# Altium integrated library Renesas Microcontroller M16C.IntLib: 423 symbols (part 26 of 30)
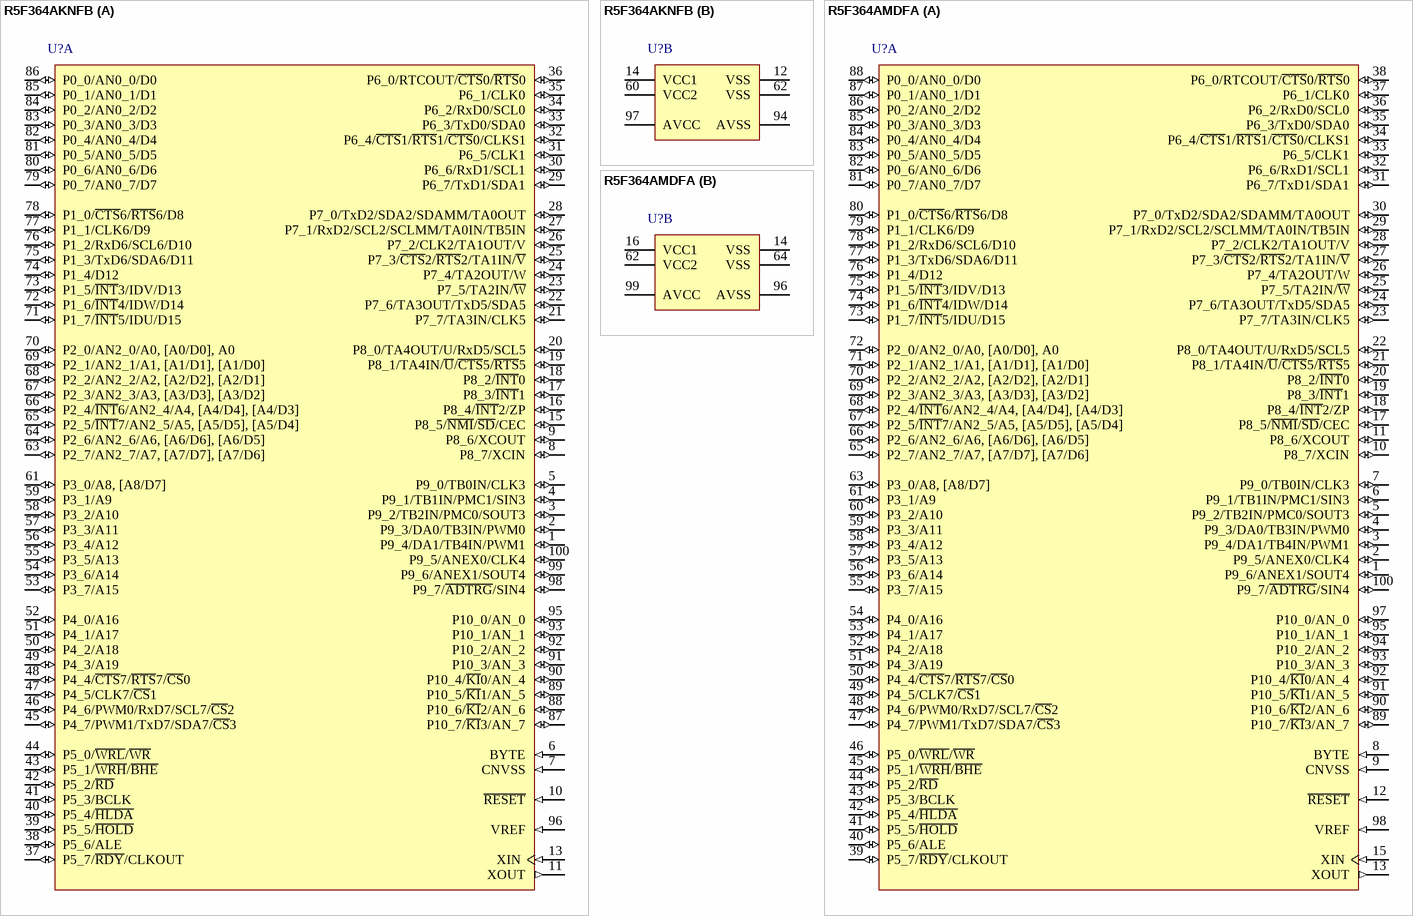
[diagram p211: symbols R5F364AKNFB to R5F364AMDFA]

## R5F364AKNFB
designator U?
Flash Memory M16C/60 Series, 64A Group MCU, 384K + 24K ROM, 31K RAM, 100-pin LQFP, -20 to 85°C; Published: 26-Feb-2010; DatasheetVersion: Rev.1.10, Jul-2009; PackageVersion: Sep-2005; PackageReference: PLQP0100KB-A; Publisher: Altium Limited; PackageDescription: 100-Pin Plastic Low Profile QFP, 14 x 14 x 1.4 mm Body, 0.5 mm Pitch; Code_JEITA: P-LQFP100-14x14-0.50; Code_IPC: SQFP50P1600X1600-100; ComponentLink1Description: Manufacturer Link; ComponentLink1URL: http://sg.renesas.com/fmwk.jsp?cnt=m16c_family_landing.jsp&fp=/products/mpumcu/m16c_family/; ComponentLink2Description: Datasheet; ComponentLink2URL: http://documentation.renesas.com/eng/products/mpumcu/rej03b0264_16c64ads.pdf; ComponentLink3Description: Packaging Specification; ComponentLink3URL: http://sg.renesas.com/media/products/common_info/package/pdf/ic/code/plqp0100kb_a.pdf
footprint PLQP0100KB-A_N (Shrink QFP, 100-Leads, Body 14x14mm, Pitch 0.5mm, IPC Medium Density)
footprint PLQP0100KB-A_L (Shrink QFP, 100-Leads, Body 14x14mm, Pitch 0.5mm, IPC High Density)
footprint PLQP0100KB-A_M (Shrink QFP, 100-Leads, Body 14x14mm, Pitch 0.5mm, IPC Low Density)
part A pins: 1 P9_4/DA1/TB4IN/PWM1 (io), 2 P9_3/DA0/TB3IN/PWM0 (io), 3 P9_2/TB2IN/PMC0/SOUT3 (io), 4 P9_1/TB1IN/PMC1/SIN3 (io), 5 P9_0/TB0IN/CLK3 (io), 6 BYTE (in), 7 CNVSS (in), 8 P8_7/XCIN (io), 9 P8_6/XCOUT (io), 10 ~{RESET} (in), 11 XOUT (out), 13 XIN (in), 15 P8_5/~{NMI}/~{SD}/CEC (io), 16 P8_4/~{INT}2/ZP (io), 17 P8_3/~{INT}1 (io), 18 P8_2/~{INT}0 (io), 19 P8_1/TA4IN/~{U}/~{CTS}5/~{RTS}5 (io), 20 P8_0/TA4OUT/U/RxD5/SCL5 (io), 21 P7_7/TA3IN/CLK5 (io), 22 P7_6/TA3OUT/TxD5/SDA5 (io), 23 P7_5/TA2IN/~{W} (io), 24 P7_4/TA2OUT/W (io), 25 P7_3/~{CTS}2/~{RTS}2/TA1IN/~{V} (io), 26 P7_2/CLK2/TA1OUT/V (io), 27 P7_1/RxD2/SCL2/SCLMM/TA0IN/TB5IN (io), 28 P7_0/TxD2/SDA2/SDAMM/TA0OUT (io), 29 P6_7/TxD1/SDA1 (io), 30 P6_6/RxD1/SCL1 (io), 31 P6_5/CLK1 (io), 32 P6_4/~{CTS}1/~{RTS}1/~{CTS}0/CLKS1 (io), 33 P6_3/TxD0/SDA0 (io), 34 P6_2/RxD0/SCL0 (io), 35 P6_1/CLK0 (io), 36 P6_0/RTCOUT/~{CTS}0/~{RTS}0 (io), 37 P5_7/~{RDY}/CLKOUT (io), 38 P5_6/ALE (io), 39 P5_5/~{HOLD} (io), 40 P5_4/~{HLDA} (io), 41 P5_3/BCLK (io), 42 P5_2/~{RD} (io), 43 P5_1/~{WRH}/~{BHE} (io), 44 P5_0/~{WRL}/~{WR} (io), 45 P4_7/PWM1/TxD7/SDA7/~{CS}3 (io), 46 P4_6/PWM0/RxD7/SCL7/~{CS}2 (io), 47 P4_5/CLK7/~{CS}1 (io), 48 P4_4/~{CTS}7/~{RTS}7/~{CS}0 (io), 49 P4_3/A19 (io), 50 P4_2/A18 (io), 51 P4_1/A17 (io), 52 P4_0/A16 (io), 53 P3_7/A15 (io), 54 P3_6/A14 (io), 55 P3_5/A13 (io), 56 P3_4/A12 (io), 57 P3_3/A11 (io), 58 P3_2/A10 (io), 59 P3_1/A9 (io), 61 P3_0/A8, [A8/D7] (io), 63 P2_7/AN2_7/A7, [A7/D7], [A7/D6] (io), 64 P2_6/AN2_6/A6, [A6/D6], [A6/D5] (io), 65 P2_5/~{INT}7/AN2_5/A5, [A5/D5], [A5/D4] (io), 66 P2_4/~{INT}6/AN2_4/A4, [A4/D4], [A4/D3] (io), 67 P2_3/AN2_3/A3, [A3/D3], [A3/D2] (io), 68 P2_2/AN2_2/A2, [A2/D2], [A2/D1] (io), 69 P2_1/AN2_1/A1, [A1/D1], [A1/D0] (io), 70 P2_0/AN2_0/A0, [A0/D0], A0 (io), 71 P1_7/~{INT}5/IDU/D15 (io), 72 P1_6/~{INT}4/IDW/D14 (io), 73 P1_5/~{INT}3/IDV/D13 (io), 74 P1_4/D12 (io), 75 P1_3/TxD6/SDA6/D11 (io), 76 P1_2/RxD6/SCL6/D10 (io), 77 P1_1/CLK6/D9 (io), 78 P1_0/~{CTS}6/~{RTS}6/D8 (io), 79 P0_7/AN0_7/D7 (io), 80 P0_6/AN0_6/D6 (io), 81 P0_5/AN0_5/D5 (io), 82 P0_4/AN0_4/D4 (io), 83 P0_3/AN0_3/D3 (io), 84 P0_2/AN0_2/D2 (io), 85 P0_1/AN0_1/D1 (io), 86 P0_0/AN0_0/D0 (io), 87 P10_7/~{KI}3/AN_7 (io), 88 P10_6/~{KI}2/AN_6 (io), 89 P10_5/~{KI}1/AN_5 (io), 90 P10_4/~{KI}0/AN_4 (io), 91 P10_3/AN_3 (io), 92 P10_2/AN_2 (io), 93 P10_1/AN_1 (io), 95 P10_0/AN_0 (io), 96 VREF (in), 98 P9_7/~{ADTRG}/SIN4 (io), 99 P9_6/ANEX1/SOUT4 (io), 100 P9_5/ANEX0/CLK4 (io)
part B pins: 12 VSS (power), 14 VCC1 (power), 60 VCC2 (power), 62 VSS (power), 94 AVSS (power), 97 AVCC (power)

## R5F364AMDFA
designator U?
Flash Memory M16C/60 Series, 64A Group MCU, 512K + 24K ROM, 31K RAM, 100-pin RQFP, -40 to 85°C; Published: 26-Feb-2010; DatasheetVersion: Rev.1.10, Jul-2009; PackageVersion: Nov-2006; PackageReference: PRQP0100JD-B; Publisher: Altium Limited; PackageDescription: 100-Pin Plastic Quad Flat Pack, 20 x 14 x 2.8 mm Body, 0.65 mm Pitch; Code_JEITA: P-QFP100-14x20-0.65; ComponentLink1Description: Manufacturer Link; ComponentLink1URL: http://sg.renesas.com/fmwk.jsp?cnt=m16c_family_landing.jsp&fp=/products/mpumcu/m16c_family/; ComponentLink2Description: Datasheet; ComponentLink2URL: http://documentation.renesas.com/eng/products/mpumcu/rej03b0264_16c64ads.pdf; ComponentLink3Description: Packaging Specification; ComponentLink3URL: http://sg.renesas.com/media/products/common_info/package/pdf/ic/code/prqp0100jd_b.pdf
footprint PRQP0100JD-B_N (QFP, 100-Leads, Body 20x14mm, Pitch 0.65mm, IPC Medium Density)
footprint PRQP0100JD-B_L (QFP, 100-Leads, Body 20x14mm, Pitch 0.65mm, IPC High Density)
footprint PRQP0100JD-B_M (QFP, 100-Leads, Body 20x14mm, Pitch 0.65mm, IPC Low Density)
part A pins: 1 P9_6/ANEX1/SOUT4 (io), 2 P9_5/ANEX0/CLK4 (io), 3 P9_4/DA1/TB4IN/PWM1 (io), 4 P9_3/DA0/TB3IN/PWM0 (io), 5 P9_2/TB2IN/PMC0/SOUT3 (io), 6 P9_1/TB1IN/PMC1/SIN3 (io), 7 P9_0/TB0IN/CLK3 (io), 8 BYTE (in), 9 CNVSS (in), 10 P8_7/XCIN (io), 11 P8_6/XCOUT (io), 12 ~{RESET} (in), 13 XOUT (out), 15 XIN (in), 17 P8_5/~{NMI}/~{SD}/CEC (io), 18 P8_4/~{INT}2/ZP (io), 19 P8_3/~{INT}1 (io), 20 P8_2/~{INT}0 (io), 21 P8_1/TA4IN/~{U}/~{CTS}5/~{RTS}5 (io), 22 P8_0/TA4OUT/U/RxD5/SCL5 (io), 23 P7_7/TA3IN/CLK5 (io), 24 P7_6/TA3OUT/TxD5/SDA5 (io), 25 P7_5/TA2IN/~{W} (io), 26 P7_4/TA2OUT/W (io), 27 P7_3/~{CTS}2/~{RTS}2/TA1IN/~{V} (io), 28 P7_2/CLK2/TA1OUT/V (io), 29 P7_1/RxD2/SCL2/SCLMM/TA0IN/TB5IN (io), 30 P7_0/TxD2/SDA2/SDAMM/TA0OUT (io), 31 P6_7/TxD1/SDA1 (io), 32 P6_6/RxD1/SCL1 (io), 33 P6_5/CLK1 (io), 34 P6_4/~{CTS}1/~{RTS}1/~{CTS}0/CLKS1 (io), 35 P6_3/TxD0/SDA0 (io), 36 P6_2/RxD0/SCL0 (io), 37 P6_1/CLK0 (io), 38 P6_0/RTCOUT/~{CTS}0/~{RTS}0 (io), 39 P5_7/~{RDY}/CLKOUT (io), 40 P5_6/ALE (io), 41 P5_5/~{HOLD} (io), 42 P5_4/~{HLDA} (io), 43 P5_3/BCLK (io), 44 P5_2/~{RD} (io), 45 P5_1/~{WRH}/~{BHE} (io), 46 P5_0/~{WRL}/~{WR} (io), 47 P4_7/PWM1/TxD7/SDA7/~{CS}3 (io), 48 P4_6/PWM0/RxD7/SCL7/~{CS}2 (io), 49 P4_5/CLK7/~{CS}1 (io), 50 P4_4/~{CTS}7/~{RTS}7/~{CS}0 (io), 51 P4_3/A19 (io), 52 P4_2/A18 (io), 53 P4_1/A17 (io), 54 P4_0/A16 (io), 55 P3_7/A15 (io), 56 P3_6/A14 (io), 57 P3_5/A13 (io), 58 P3_4/A12 (io), 59 P3_3/A11 (io), 60 P3_2/A10 (io), 61 P3_1/A9 (io), 63 P3_0/A8, [A8/D7] (io), 65 P2_7/AN2_7/A7, [A7/D7], [A7/D6] (io), 66 P2_6/AN2_6/A6, [A6/D6], [A6/D5] (io), 67 P2_5/~{INT}7/AN2_5/A5, [A5/D5], [A5/D4] (io), 68 P2_4/~{INT}6/AN2_4/A4, [A4/D4], [A4/D3] (io), 69 P2_3/AN2_3/A3, [A3/D3], [A3/D2] (io), 70 P2_2/AN2_2/A2, [A2/D2], [A2/D1] (io), 71 P2_1/AN2_1/A1, [A1/D1], [A1/D0] (io), 72 P2_0/AN2_0/A0, [A0/D0], A0 (io), 73 P1_7/~{INT}5/IDU/D15 (io), 74 P1_6/~{INT}4/IDW/D14 (io), 75 P1_5/~{INT}3/IDV/D13 (io), 76 P1_4/D12 (io), 77 P1_3/TxD6/SDA6/D11 (io), 78 P1_2/RxD6/SCL6/D10 (io), 79 P1_1/CLK6/D9 (io), 80 P1_0/~{CTS}6/~{RTS}6/D8 (io), 81 P0_7/AN0_7/D7 (io), 82 P0_6/AN0_6/D6 (io), 83 P0_5/AN0_5/D5 (io), 84 P0_4/AN0_4/D4 (io), 85 P0_3/AN0_3/D3 (io), 86 P0_2/AN0_2/D2 (io), 87 P0_1/AN0_1/D1 (io), 88 P0_0/AN0_0/D0 (io), 89 P10_7/~{KI}3/AN_7 (io), 90 P10_6/~{KI}2/AN_6 (io), 91 P10_5/~{KI}1/AN_5 (io), 92 P10_4/~{KI}0/AN_4 (io), 93 P10_3/AN_3 (io), 94 P10_2/AN_2 (io), 95 P10_1/AN_1 (io), 97 P10_0/AN_0 (io), 98 VREF (in), 100 P9_7/~{ADTRG}/SIN4 (io)
part B pins: 14 VSS (power), 16 VCC1 (power), 62 VCC2 (power), 64 VSS (power), 96 AVSS (power), 99 AVCC (power)

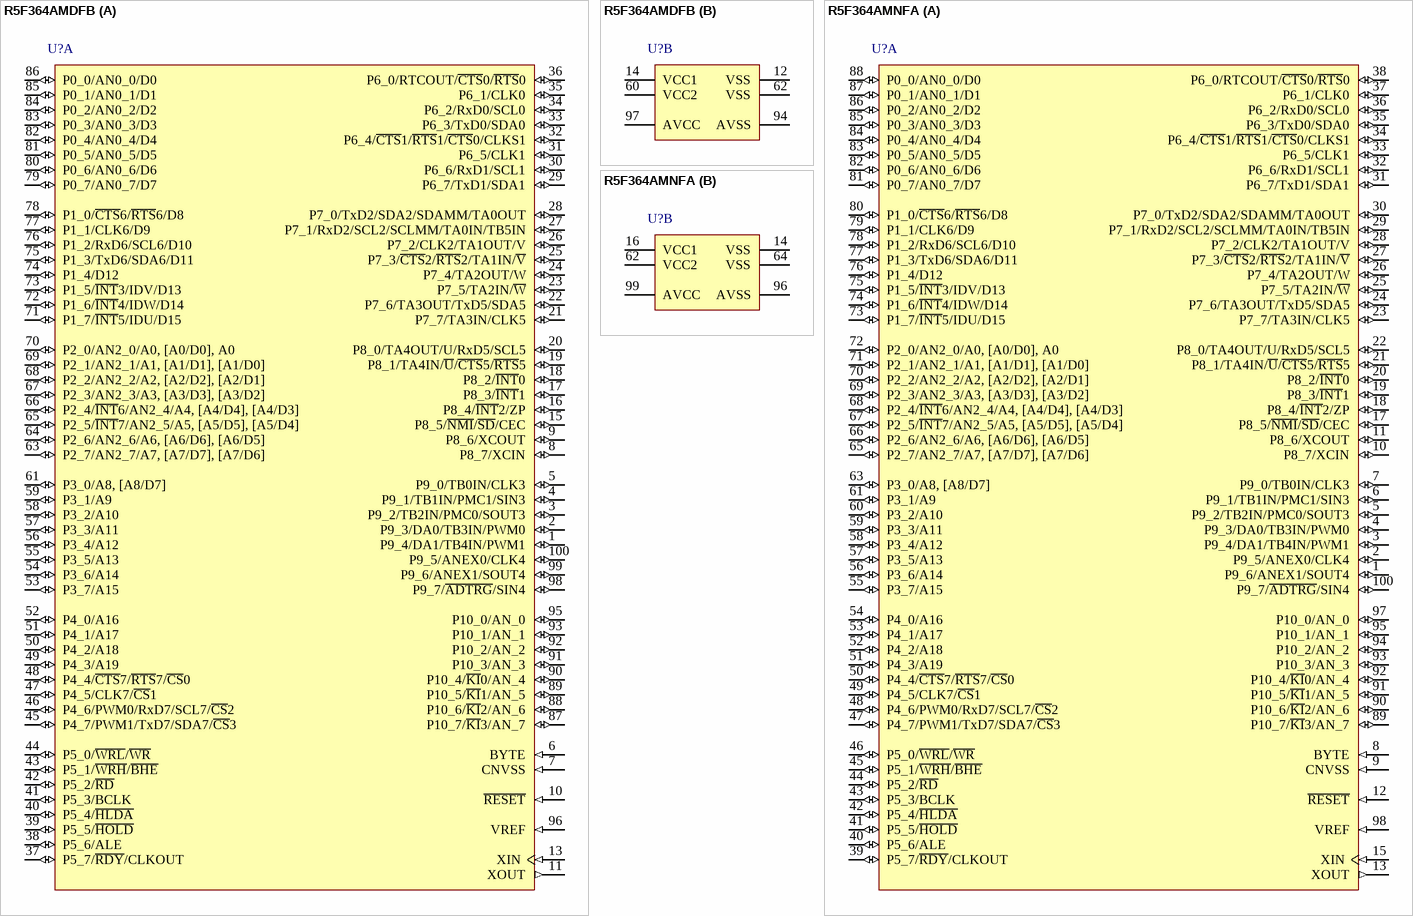
[diagram p160: symbols R5F364AMDFB to R5F364AMNFA]

## R5F364AMDFB
designator U?
Flash Memory M16C/60 Series, 64A Group MCU, 512K + 24K ROM, 31K RAM, 100-pin LQFP, -40 to 85°C; Published: 26-Feb-2010; DatasheetVersion: Rev.1.10, Jul-2009; PackageVersion: Sep-2005; PackageReference: PLQP0100KB-A; Publisher: Altium Limited; PackageDescription: 100-Pin Plastic Low Profile QFP, 14 x 14 x 1.4 mm Body, 0.5 mm Pitch; Code_JEITA: P-LQFP100-14x14-0.50; Code_IPC: SQFP50P1600X1600-100; ComponentLink1Description: Manufacturer Link; ComponentLink1URL: http://sg.renesas.com/fmwk.jsp?cnt=m16c_family_landing.jsp&fp=/products/mpumcu/m16c_family/; ComponentLink2Description: Datasheet; ComponentLink2URL: http://documentation.renesas.com/eng/products/mpumcu/rej03b0264_16c64ads.pdf; ComponentLink3Description: Packaging Specification; ComponentLink3URL: http://sg.renesas.com/media/products/common_info/package/pdf/ic/code/plqp0100kb_a.pdf
footprint PLQP0100KB-A_N (Shrink QFP, 100-Leads, Body 14x14mm, Pitch 0.5mm, IPC Medium Density)
footprint PLQP0100KB-A_L (Shrink QFP, 100-Leads, Body 14x14mm, Pitch 0.5mm, IPC High Density)
footprint PLQP0100KB-A_M (Shrink QFP, 100-Leads, Body 14x14mm, Pitch 0.5mm, IPC Low Density)
part A pins: 1 P9_4/DA1/TB4IN/PWM1 (io), 2 P9_3/DA0/TB3IN/PWM0 (io), 3 P9_2/TB2IN/PMC0/SOUT3 (io), 4 P9_1/TB1IN/PMC1/SIN3 (io), 5 P9_0/TB0IN/CLK3 (io), 6 BYTE (in), 7 CNVSS (in), 8 P8_7/XCIN (io), 9 P8_6/XCOUT (io), 10 ~{RESET} (in), 11 XOUT (out), 13 XIN (in), 15 P8_5/~{NMI}/~{SD}/CEC (io), 16 P8_4/~{INT}2/ZP (io), 17 P8_3/~{INT}1 (io), 18 P8_2/~{INT}0 (io), 19 P8_1/TA4IN/~{U}/~{CTS}5/~{RTS}5 (io), 20 P8_0/TA4OUT/U/RxD5/SCL5 (io), 21 P7_7/TA3IN/CLK5 (io), 22 P7_6/TA3OUT/TxD5/SDA5 (io), 23 P7_5/TA2IN/~{W} (io), 24 P7_4/TA2OUT/W (io), 25 P7_3/~{CTS}2/~{RTS}2/TA1IN/~{V} (io), 26 P7_2/CLK2/TA1OUT/V (io), 27 P7_1/RxD2/SCL2/SCLMM/TA0IN/TB5IN (io), 28 P7_0/TxD2/SDA2/SDAMM/TA0OUT (io), 29 P6_7/TxD1/SDA1 (io), 30 P6_6/RxD1/SCL1 (io), 31 P6_5/CLK1 (io), 32 P6_4/~{CTS}1/~{RTS}1/~{CTS}0/CLKS1 (io), 33 P6_3/TxD0/SDA0 (io), 34 P6_2/RxD0/SCL0 (io), 35 P6_1/CLK0 (io), 36 P6_0/RTCOUT/~{CTS}0/~{RTS}0 (io), 37 P5_7/~{RDY}/CLKOUT (io), 38 P5_6/ALE (io), 39 P5_5/~{HOLD} (io), 40 P5_4/~{HLDA} (io), 41 P5_3/BCLK (io), 42 P5_2/~{RD} (io), 43 P5_1/~{WRH}/~{BHE} (io), 44 P5_0/~{WRL}/~{WR} (io), 45 P4_7/PWM1/TxD7/SDA7/~{CS}3 (io), 46 P4_6/PWM0/RxD7/SCL7/~{CS}2 (io), 47 P4_5/CLK7/~{CS}1 (io), 48 P4_4/~{CTS}7/~{RTS}7/~{CS}0 (io), 49 P4_3/A19 (io), 50 P4_2/A18 (io), 51 P4_1/A17 (io), 52 P4_0/A16 (io), 53 P3_7/A15 (io), 54 P3_6/A14 (io), 55 P3_5/A13 (io), 56 P3_4/A12 (io), 57 P3_3/A11 (io), 58 P3_2/A10 (io), 59 P3_1/A9 (io), 61 P3_0/A8, [A8/D7] (io), 63 P2_7/AN2_7/A7, [A7/D7], [A7/D6] (io), 64 P2_6/AN2_6/A6, [A6/D6], [A6/D5] (io), 65 P2_5/~{INT}7/AN2_5/A5, [A5/D5], [A5/D4] (io), 66 P2_4/~{INT}6/AN2_4/A4, [A4/D4], [A4/D3] (io), 67 P2_3/AN2_3/A3, [A3/D3], [A3/D2] (io), 68 P2_2/AN2_2/A2, [A2/D2], [A2/D1] (io), 69 P2_1/AN2_1/A1, [A1/D1], [A1/D0] (io), 70 P2_0/AN2_0/A0, [A0/D0], A0 (io), 71 P1_7/~{INT}5/IDU/D15 (io), 72 P1_6/~{INT}4/IDW/D14 (io), 73 P1_5/~{INT}3/IDV/D13 (io), 74 P1_4/D12 (io), 75 P1_3/TxD6/SDA6/D11 (io), 76 P1_2/RxD6/SCL6/D10 (io), 77 P1_1/CLK6/D9 (io), 78 P1_0/~{CTS}6/~{RTS}6/D8 (io), 79 P0_7/AN0_7/D7 (io), 80 P0_6/AN0_6/D6 (io), 81 P0_5/AN0_5/D5 (io), 82 P0_4/AN0_4/D4 (io), 83 P0_3/AN0_3/D3 (io), 84 P0_2/AN0_2/D2 (io), 85 P0_1/AN0_1/D1 (io), 86 P0_0/AN0_0/D0 (io), 87 P10_7/~{KI}3/AN_7 (io), 88 P10_6/~{KI}2/AN_6 (io), 89 P10_5/~{KI}1/AN_5 (io), 90 P10_4/~{KI}0/AN_4 (io), 91 P10_3/AN_3 (io), 92 P10_2/AN_2 (io), 93 P10_1/AN_1 (io), 95 P10_0/AN_0 (io), 96 VREF (in), 98 P9_7/~{ADTRG}/SIN4 (io), 99 P9_6/ANEX1/SOUT4 (io), 100 P9_5/ANEX0/CLK4 (io)
part B pins: 12 VSS (power), 14 VCC1 (power), 60 VCC2 (power), 62 VSS (power), 94 AVSS (power), 97 AVCC (power)

## R5F364AMNFA
designator U?
Flash Memory M16C/60 Series, 64A Group MCU, 512K + 24K ROM, 31K RAM, 100-pin RQFP, -20 to 85°C; Published: 26-Feb-2010; DatasheetVersion: Rev.1.10, Jul-2009; PackageVersion: Nov-2006; PackageReference: PRQP0100JD-B; Publisher: Altium Limited; PackageDescription: 100-Pin Plastic Quad Flat Pack, 20 x 14 x 2.8 mm Body, 0.65 mm Pitch; Code_JEITA: P-QFP100-14x20-0.65; ComponentLink1Description: Manufacturer Link; ComponentLink1URL: http://sg.renesas.com/fmwk.jsp?cnt=m16c_family_landing.jsp&fp=/products/mpumcu/m16c_family/; ComponentLink2Description: Datasheet; ComponentLink2URL: http://documentation.renesas.com/eng/products/mpumcu/rej03b0264_16c64ads.pdf; ComponentLink3Description: Packaging Specification; ComponentLink3URL: http://sg.renesas.com/media/products/common_info/package/pdf/ic/code/prqp0100jd_b.pdf
footprint PRQP0100JD-B_N (QFP, 100-Leads, Body 20x14mm, Pitch 0.65mm, IPC Medium Density)
footprint PRQP0100JD-B_L (QFP, 100-Leads, Body 20x14mm, Pitch 0.65mm, IPC High Density)
footprint PRQP0100JD-B_M (QFP, 100-Leads, Body 20x14mm, Pitch 0.65mm, IPC Low Density)
part A pins: 1 P9_6/ANEX1/SOUT4 (io), 2 P9_5/ANEX0/CLK4 (io), 3 P9_4/DA1/TB4IN/PWM1 (io), 4 P9_3/DA0/TB3IN/PWM0 (io), 5 P9_2/TB2IN/PMC0/SOUT3 (io), 6 P9_1/TB1IN/PMC1/SIN3 (io), 7 P9_0/TB0IN/CLK3 (io), 8 BYTE (in), 9 CNVSS (in), 10 P8_7/XCIN (io), 11 P8_6/XCOUT (io), 12 ~{RESET} (in), 13 XOUT (out), 15 XIN (in), 17 P8_5/~{NMI}/~{SD}/CEC (io), 18 P8_4/~{INT}2/ZP (io), 19 P8_3/~{INT}1 (io), 20 P8_2/~{INT}0 (io), 21 P8_1/TA4IN/~{U}/~{CTS}5/~{RTS}5 (io), 22 P8_0/TA4OUT/U/RxD5/SCL5 (io), 23 P7_7/TA3IN/CLK5 (io), 24 P7_6/TA3OUT/TxD5/SDA5 (io), 25 P7_5/TA2IN/~{W} (io), 26 P7_4/TA2OUT/W (io), 27 P7_3/~{CTS}2/~{RTS}2/TA1IN/~{V} (io), 28 P7_2/CLK2/TA1OUT/V (io), 29 P7_1/RxD2/SCL2/SCLMM/TA0IN/TB5IN (io), 30 P7_0/TxD2/SDA2/SDAMM/TA0OUT (io), 31 P6_7/TxD1/SDA1 (io), 32 P6_6/RxD1/SCL1 (io), 33 P6_5/CLK1 (io), 34 P6_4/~{CTS}1/~{RTS}1/~{CTS}0/CLKS1 (io), 35 P6_3/TxD0/SDA0 (io), 36 P6_2/RxD0/SCL0 (io), 37 P6_1/CLK0 (io), 38 P6_0/RTCOUT/~{CTS}0/~{RTS}0 (io), 39 P5_7/~{RDY}/CLKOUT (io), 40 P5_6/ALE (io), 41 P5_5/~{HOLD} (io), 42 P5_4/~{HLDA} (io), 43 P5_3/BCLK (io), 44 P5_2/~{RD} (io), 45 P5_1/~{WRH}/~{BHE} (io), 46 P5_0/~{WRL}/~{WR} (io), 47 P4_7/PWM1/TxD7/SDA7/~{CS}3 (io), 48 P4_6/PWM0/RxD7/SCL7/~{CS}2 (io), 49 P4_5/CLK7/~{CS}1 (io), 50 P4_4/~{CTS}7/~{RTS}7/~{CS}0 (io), 51 P4_3/A19 (io), 52 P4_2/A18 (io), 53 P4_1/A17 (io), 54 P4_0/A16 (io), 55 P3_7/A15 (io), 56 P3_6/A14 (io), 57 P3_5/A13 (io), 58 P3_4/A12 (io), 59 P3_3/A11 (io), 60 P3_2/A10 (io), 61 P3_1/A9 (io), 63 P3_0/A8, [A8/D7] (io), 65 P2_7/AN2_7/A7, [A7/D7], [A7/D6] (io), 66 P2_6/AN2_6/A6, [A6/D6], [A6/D5] (io), 67 P2_5/~{INT}7/AN2_5/A5, [A5/D5], [A5/D4] (io), 68 P2_4/~{INT}6/AN2_4/A4, [A4/D4], [A4/D3] (io), 69 P2_3/AN2_3/A3, [A3/D3], [A3/D2] (io), 70 P2_2/AN2_2/A2, [A2/D2], [A2/D1] (io), 71 P2_1/AN2_1/A1, [A1/D1], [A1/D0] (io), 72 P2_0/AN2_0/A0, [A0/D0], A0 (io), 73 P1_7/~{INT}5/IDU/D15 (io), 74 P1_6/~{INT}4/IDW/D14 (io), 75 P1_5/~{INT}3/IDV/D13 (io), 76 P1_4/D12 (io), 77 P1_3/TxD6/SDA6/D11 (io), 78 P1_2/RxD6/SCL6/D10 (io), 79 P1_1/CLK6/D9 (io), 80 P1_0/~{CTS}6/~{RTS}6/D8 (io), 81 P0_7/AN0_7/D7 (io), 82 P0_6/AN0_6/D6 (io), 83 P0_5/AN0_5/D5 (io), 84 P0_4/AN0_4/D4 (io), 85 P0_3/AN0_3/D3 (io), 86 P0_2/AN0_2/D2 (io), 87 P0_1/AN0_1/D1 (io), 88 P0_0/AN0_0/D0 (io), 89 P10_7/~{KI}3/AN_7 (io), 90 P10_6/~{KI}2/AN_6 (io), 91 P10_5/~{KI}1/AN_5 (io), 92 P10_4/~{KI}0/AN_4 (io), 93 P10_3/AN_3 (io), 94 P10_2/AN_2 (io), 95 P10_1/AN_1 (io), 97 P10_0/AN_0 (io), 98 VREF (in), 100 P9_7/~{ADTRG}/SIN4 (io)
part B pins: 14 VSS (power), 16 VCC1 (power), 62 VCC2 (power), 64 VSS (power), 96 AVSS (power), 99 AVCC (power)

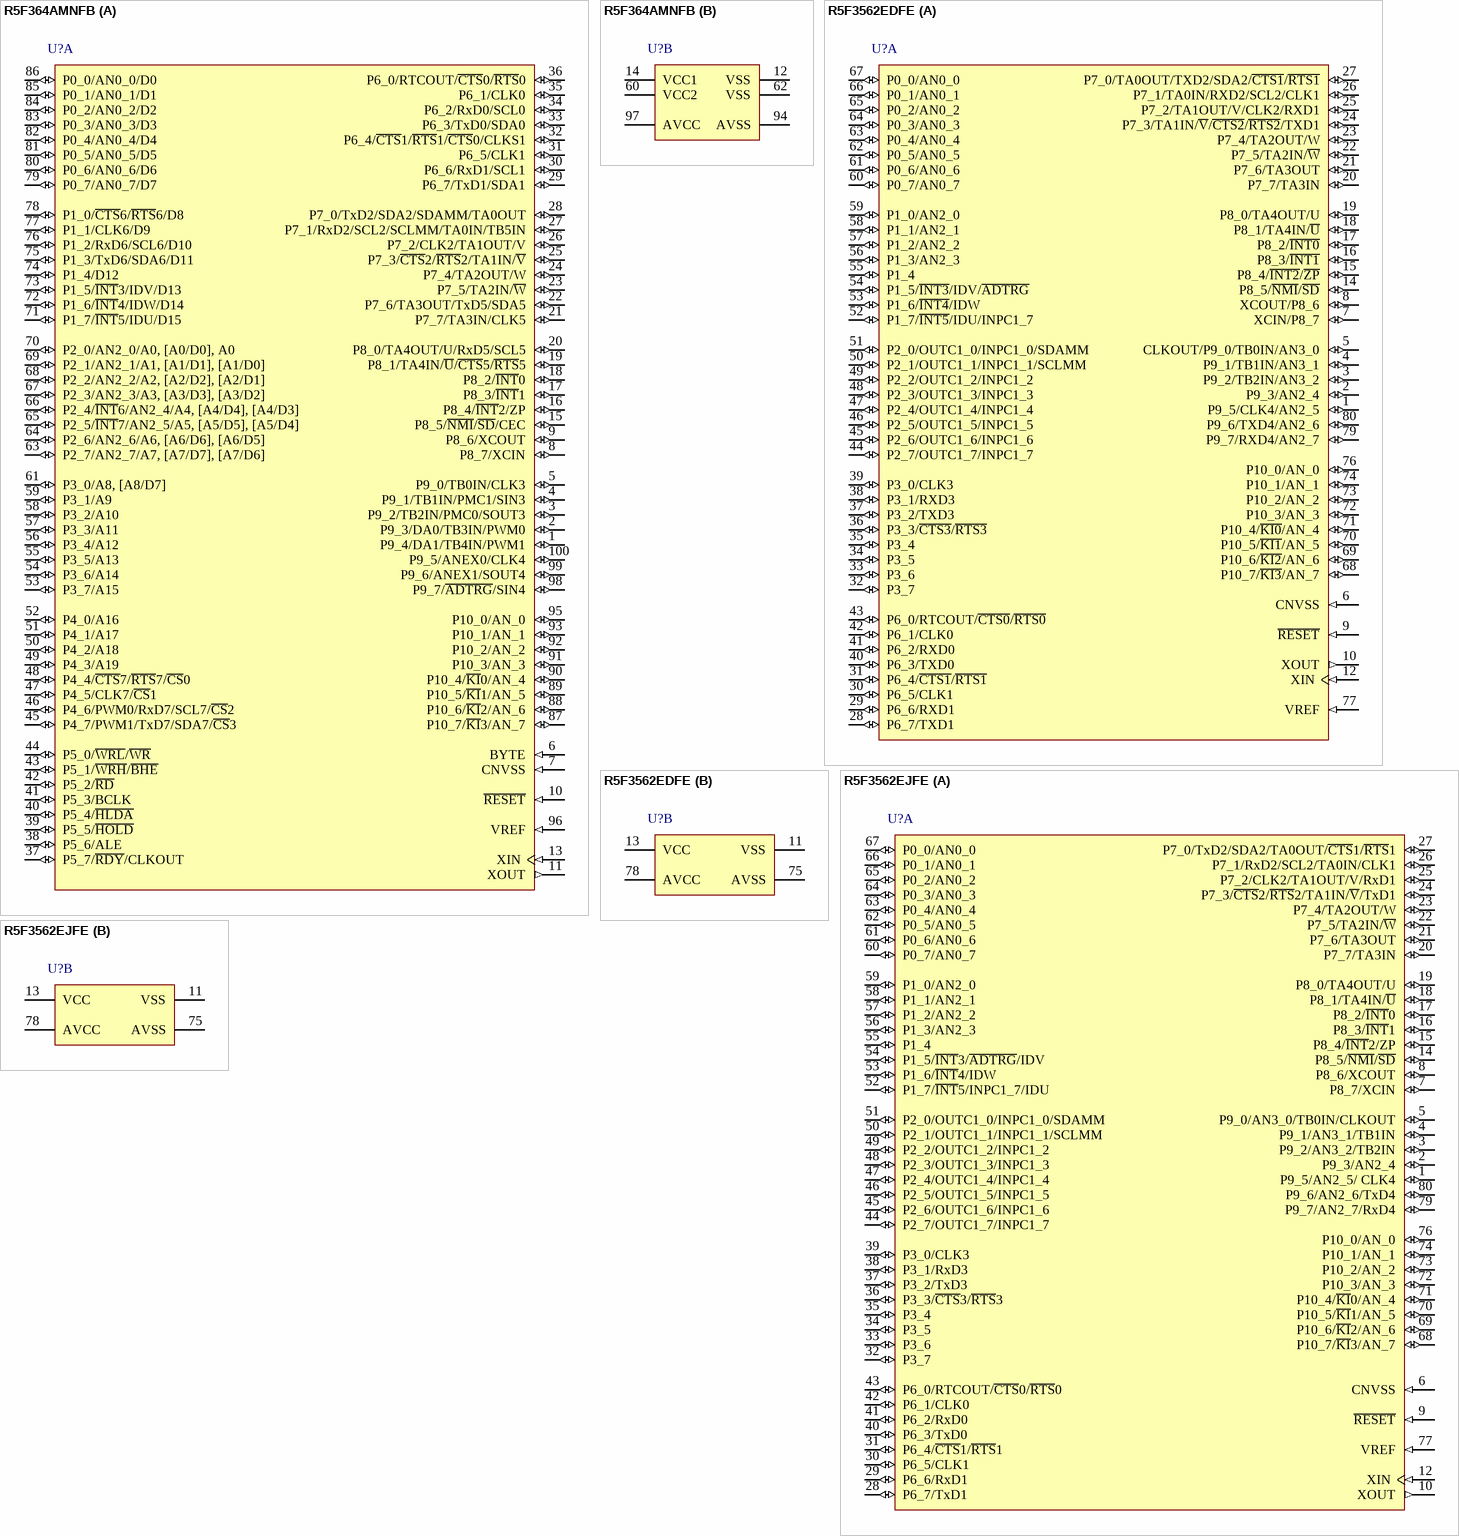
[diagram p161: symbols R5F364AMNFB to R5F3562EJFE]

## R5F364AMNFB
designator U?
Flash Memory M16C/60 Series, 64A Group MCU, 512K + 24K ROM, 31K RAM, 100-pin LQFP, -20 to 85°C; Published: 26-Feb-2010; DatasheetVersion: Rev.1.10, Jul-2009; PackageVersion: Sep-2005; PackageReference: PLQP0100KB-A; Publisher: Altium Limited; PackageDescription: 100-Pin Plastic Low Profile QFP, 14 x 14 x 1.4 mm Body, 0.5 mm Pitch; Code_JEITA: P-LQFP100-14x14-0.50; Code_IPC: SQFP50P1600X1600-100; ComponentLink1Description: Manufacturer Link; ComponentLink1URL: http://sg.renesas.com/fmwk.jsp?cnt=m16c_family_landing.jsp&fp=/products/mpumcu/m16c_family/; ComponentLink2Description: Datasheet; ComponentLink2URL: http://documentation.renesas.com/eng/products/mpumcu/rej03b0264_16c64ads.pdf; ComponentLink3Description: Packaging Specification; ComponentLink3URL: http://sg.renesas.com/media/products/common_info/package/pdf/ic/code/plqp0100kb_a.pdf
footprint PLQP0100KB-A_N (Shrink QFP, 100-Leads, Body 14x14mm, Pitch 0.5mm, IPC Medium Density)
footprint PLQP0100KB-A_L (Shrink QFP, 100-Leads, Body 14x14mm, Pitch 0.5mm, IPC High Density)
footprint PLQP0100KB-A_M (Shrink QFP, 100-Leads, Body 14x14mm, Pitch 0.5mm, IPC Low Density)
part A pins: 1 P9_4/DA1/TB4IN/PWM1 (io), 2 P9_3/DA0/TB3IN/PWM0 (io), 3 P9_2/TB2IN/PMC0/SOUT3 (io), 4 P9_1/TB1IN/PMC1/SIN3 (io), 5 P9_0/TB0IN/CLK3 (io), 6 BYTE (in), 7 CNVSS (in), 8 P8_7/XCIN (io), 9 P8_6/XCOUT (io), 10 ~{RESET} (in), 11 XOUT (out), 13 XIN (in), 15 P8_5/~{NMI}/~{SD}/CEC (io), 16 P8_4/~{INT}2/ZP (io), 17 P8_3/~{INT}1 (io), 18 P8_2/~{INT}0 (io), 19 P8_1/TA4IN/~{U}/~{CTS}5/~{RTS}5 (io), 20 P8_0/TA4OUT/U/RxD5/SCL5 (io), 21 P7_7/TA3IN/CLK5 (io), 22 P7_6/TA3OUT/TxD5/SDA5 (io), 23 P7_5/TA2IN/~{W} (io), 24 P7_4/TA2OUT/W (io), 25 P7_3/~{CTS}2/~{RTS}2/TA1IN/~{V} (io), 26 P7_2/CLK2/TA1OUT/V (io), 27 P7_1/RxD2/SCL2/SCLMM/TA0IN/TB5IN (io), 28 P7_0/TxD2/SDA2/SDAMM/TA0OUT (io), 29 P6_7/TxD1/SDA1 (io), 30 P6_6/RxD1/SCL1 (io), 31 P6_5/CLK1 (io), 32 P6_4/~{CTS}1/~{RTS}1/~{CTS}0/CLKS1 (io), 33 P6_3/TxD0/SDA0 (io), 34 P6_2/RxD0/SCL0 (io), 35 P6_1/CLK0 (io), 36 P6_0/RTCOUT/~{CTS}0/~{RTS}0 (io), 37 P5_7/~{RDY}/CLKOUT (io), 38 P5_6/ALE (io), 39 P5_5/~{HOLD} (io), 40 P5_4/~{HLDA} (io), 41 P5_3/BCLK (io), 42 P5_2/~{RD} (io), 43 P5_1/~{WRH}/~{BHE} (io), 44 P5_0/~{WRL}/~{WR} (io), 45 P4_7/PWM1/TxD7/SDA7/~{CS}3 (io), 46 P4_6/PWM0/RxD7/SCL7/~{CS}2 (io), 47 P4_5/CLK7/~{CS}1 (io), 48 P4_4/~{CTS}7/~{RTS}7/~{CS}0 (io), 49 P4_3/A19 (io), 50 P4_2/A18 (io), 51 P4_1/A17 (io), 52 P4_0/A16 (io), 53 P3_7/A15 (io), 54 P3_6/A14 (io), 55 P3_5/A13 (io), 56 P3_4/A12 (io), 57 P3_3/A11 (io), 58 P3_2/A10 (io), 59 P3_1/A9 (io), 61 P3_0/A8, [A8/D7] (io), 63 P2_7/AN2_7/A7, [A7/D7], [A7/D6] (io), 64 P2_6/AN2_6/A6, [A6/D6], [A6/D5] (io), 65 P2_5/~{INT}7/AN2_5/A5, [A5/D5], [A5/D4] (io), 66 P2_4/~{INT}6/AN2_4/A4, [A4/D4], [A4/D3] (io), 67 P2_3/AN2_3/A3, [A3/D3], [A3/D2] (io), 68 P2_2/AN2_2/A2, [A2/D2], [A2/D1] (io), 69 P2_1/AN2_1/A1, [A1/D1], [A1/D0] (io), 70 P2_0/AN2_0/A0, [A0/D0], A0 (io), 71 P1_7/~{INT}5/IDU/D15 (io), 72 P1_6/~{INT}4/IDW/D14 (io), 73 P1_5/~{INT}3/IDV/D13 (io), 74 P1_4/D12 (io), 75 P1_3/TxD6/SDA6/D11 (io), 76 P1_2/RxD6/SCL6/D10 (io), 77 P1_1/CLK6/D9 (io), 78 P1_0/~{CTS}6/~{RTS}6/D8 (io), 79 P0_7/AN0_7/D7 (io), 80 P0_6/AN0_6/D6 (io), 81 P0_5/AN0_5/D5 (io), 82 P0_4/AN0_4/D4 (io), 83 P0_3/AN0_3/D3 (io), 84 P0_2/AN0_2/D2 (io), 85 P0_1/AN0_1/D1 (io), 86 P0_0/AN0_0/D0 (io), 87 P10_7/~{KI}3/AN_7 (io), 88 P10_6/~{KI}2/AN_6 (io), 89 P10_5/~{KI}1/AN_5 (io), 90 P10_4/~{KI}0/AN_4 (io), 91 P10_3/AN_3 (io), 92 P10_2/AN_2 (io), 93 P10_1/AN_1 (io), 95 P10_0/AN_0 (io), 96 VREF (in), 98 P9_7/~{ADTRG}/SIN4 (io), 99 P9_6/ANEX1/SOUT4 (io), 100 P9_5/ANEX0/CLK4 (io)
part B pins: 12 VSS (power), 14 VCC1 (power), 60 VCC2 (power), 62 VSS (power), 94 AVSS (power), 97 AVCC (power)

## R5F3562EDFE
designator U?
Flash Memory M16C/50 Series, M16C/56D Group MCU, 256K + 24K ROM, 20K RAM, CAN Module, 80-pin QFP, -40 to 85°C; Published: 26-Feb-2010; DatasheetVersion: Rev.1.10, Dec-2009; PackageVersion: Sep-2005; PackageReference: PLQP0080KB-A; Publisher: Altium Limited; PackageDescription: 80-Pin Plastic Low Profile QFP, 12 x 12 x 1.4 mm Body, 0.5 mm Pitch; Code_JEITA: P-LQFP80-12x12-0.50; Code_IPC: SQFP50P1400X1400-80; ComponentLink1Description: Manufacturer Link; ComponentLink1URL: http://sg.renesas.com/fmwk.jsp?cnt=m16c_family_landing.jsp&fp=/products/mpumcu/m16c_family/; ComponentLink2Description: Datasheet; ComponentLink2URL: http://documentation.renesas.com/eng/products/mpumcu/rej03b0307_16c5ldds.pdf; ComponentLink3Description: Packaging Specification; ComponentLink3URL: http://sg.renesas.com/media/products/common_info/package/pdf/ic/code/plqp0080kb_a.pdf
footprint PLQP0080KB-A_N (Shrink QFP, 80-Leads, Body 12x12mm, Pitch 0.5mm, IPC Medium Density)
footprint PLQP0080KB-A_L (Shrink QFP, 80-Leads, Body 12x12mm, Pitch 0.5mm, IPC High Density)
footprint PLQP0080KB-A_M (Shrink QFP, 80-Leads, Body 12x12mm, Pitch 0.5mm, IPC Low Density)
part A pins: 1 P9_5/CLK4/AN2_5 (io), 2 P9_3/AN2_4 (io), 3 P9_2/TB2IN/AN3_2 (io), 4 P9_1/TB1IN/AN3_1 (io), 5 CLKOUT/P9_0/TB0IN/AN3_0 (io), 6 CNVSS (in), 7 XCIN/P8_7 (io), 8 XCOUT/P8_6 (io), 9 ~{RESET} (in), 10 XOUT (out), 12 XIN (in), 14 P8_5/~{NMI}/~{SD} (io), 15 P8_4/~{INT2}/~{ZP} (io), 16 P8_3/~{INT1} (io), 17 P8_2/~{INT0} (io), 18 P8_1/TA4IN/~{U} (io), 19 P8_0/TA4OUT/U (io), 20 P7_7/TA3IN (io), 21 P7_6/TA3OUT (io), 22 P7_5/TA2IN/~{W} (io), 23 P7_4/TA2OUT/W (io), 24 P7_3/TA1IN/~{V}/~{CTS2}/~{RTS2}/TXD1 (io), 25 P7_2/TA1OUT/V/CLK2/RXD1 (io), 26 P7_1/TA0IN/RXD2/SCL2/CLK1 (io), 27 P7_0/TA0OUT/TXD2/SDA2/~{CTS1}/~{RTS1} (io), 28 P6_7/TXD1 (io), 29 P6_6/RXD1 (io), 30 P6_5/CLK1 (io), 31 P6_4/~{CTS1}/~{RTS1} (io), 32 P3_7 (io), 33 P3_6 (io), 34 P3_5 (io), 35 P3_4 (io), 36 P3_3/~{CTS3}/~{RTS3} (io), 37 P3_2/TXD3 (io), 38 P3_1/RXD3 (io), 39 P3_0/CLK3 (io), 40 P6_3/TXD0 (io), 41 P6_2/RXD0 (io), 42 P6_1/CLK0 (io), 43 P6_0/RTCOUT/~{CTS0}/~{RTS0} (io), 44 P2_7/OUTC1_7/INPC1_7 (io), 45 P2_6/OUTC1_6/INPC1_6 (io), 46 P2_5/OUTC1_5/INPC1_5 (io), 47 P2_4/OUTC1_4/INPC1_4 (io), 48 P2_3/OUTC1_3/INPC1_3 (io), 49 P2_2/OUTC1_2/INPC1_2 (io), 50 P2_1/OUTC1_1/INPC1_1/SCLMM (io), 51 P2_0/OUTC1_0/INPC1_0/SDAMM (io), 52 P1_7/~{INT5}/IDU/INPC1_7 (io), 53 P1_6/~{INT4}/IDW (io), 54 P1_5/~{INT3}/IDV/~{ADTRG} (io), 55 P1_4 (io), 56 P1_3/AN2_3 (io), 57 P1_2/AN2_2 (io), 58 P1_1/AN2_1 (io), 59 P1_0/AN2_0 (io), 60 P0_7/AN0_7 (io), 61 P0_6/AN0_6 (io), 62 P0_5/AN0_5 (io), 63 P0_4/AN0_4 (io), 64 P0_3/AN0_3 (io), 65 P0_2/AN0_2 (io), 66 P0_1/AN0_1 (io), 67 P0_0/AN0_0 (io), 68 P10_7/~{KI3}/AN_7 (io), 69 P10_6/~{KI2}/AN_6 (io), 70 P10_5/~{KI1}/AN_5 (io), 71 P10_4/~{KI0}/AN_4 (io), 72 P10_3/AN_3 (io), 73 P10_2/AN_2 (io), 74 P10_1/AN_1 (io), 76 P10_0/AN_0 (io), 77 VREF (in), 79 P9_7/RXD4/AN2_7 (io), 80 P9_6/TXD4/AN2_6 (io)
part B pins: 11 VSS (power), 13 VCC (power), 75 AVSS (power), 78 AVCC (power)

## R5F3562EJFE
designator U?
Flash Memory M16C/50 Series, 56 Group MCU, 256K + 24K ROM, 20K RAM, 80-pin LQFP, -40 to 85°C; Published: 28-Aug-2009; DatasheetVersion: Rev.0.40, Jul-2008; PackageVersion: Sep-2005; PackageReference: PLQP0080KB-A; Publisher: Altium Limited; PackageDescription: 80-Pin Plastic Low Profile QFP, 12 x 12 x 1.4 mm Body, 0.5 mm Pitch; Code_JEITA: P-LQFP80-12x12-0.50; Code_IPC: SQFP50P1400X1400-80; ComponentLink1Description: Manufacturer Link; ComponentLink1URL: http://sg.renesas.com/fmwk.jsp?cnt=m16c_family_landing.jsp&fp=/products/mpumcu/m16c_family/; ComponentLink2Description: Datasheet; ComponentLink2URL: http://documentation.renesas.com/eng/products/mpumcu/rej03b0221_16c5l56ds.pdf; ComponentLink3Description: Packaging Specification; ComponentLink3URL: http://sg.renesas.com/media/products/common_info/package/pdf/ic/code/plqp0080kb_a.pdf
footprint PLQP0080KB-A_N (Shrink QFP, 80-Leads, Body 12x12mm, Pitch 0.5mm, IPC Medium Density)
footprint PLQP0080KB-A_L (Shrink QFP, 80-Leads, Body 12x12mm, Pitch 0.5mm, IPC High Density)
footprint PLQP0080KB-A_M (Shrink QFP, 80-Leads, Body 12x12mm, Pitch 0.5mm, IPC Low Density)
part A pins: 1 P9_5/AN2_5/ CLK4 (io), 2 P9_3/AN2_4 (io), 3 P9_2/AN3_2/TB2IN (io), 4 P9_1/AN3_1/TB1IN (io), 5 P9_0/AN3_0/TB0IN/CLKOUT (io), 6 CNVSS (in), 7 P8_7/XCIN (io), 8 P8_6/XCOUT (io), 9 ~{RESET} (in), 10 XOUT (out), 12 XIN (in), 14 P8_5/~{NMI}/~{SD} (io), 15 P8_4/~{INT}2/ZP (io), 16 P8_3/~{INT}1 (io), 17 P8_2/~{INT}0 (io), 18 P8_1/TA4IN/~{U} (io), 19 P8_0/TA4OUT/U (io), 20 P7_7/TA3IN (io), 21 P7_6/TA3OUT (io), 22 P7_5/TA2IN/~{W} (io), 23 P7_4/TA2OUT/W (io), 24 P7_3/~{CTS}2/~{RTS}2/TA1IN/~{V}/TxD1 (io), 25 P7_2/CLK2/TA1OUT/V/RxD1 (io), 26 P7_1/RxD2/SCL2/TA0IN/CLK1 (io), 27 P7_0/TxD2/SDA2/TA0OUT/~{CTS}1/~{RTS}1 (io), 28 P6_7/TxD1 (io), 29 P6_6/RxD1 (io), 30 P6_5/CLK1 (io), 31 P6_4/~{CTS}1/~{RTS}1 (io), 32 P3_7 (io), 33 P3_6 (io), 34 P3_5 (io), 35 P3_4 (io), 36 P3_3/~{CTS}3/~{RTS}3 (io), 37 P3_2/TxD3 (io), 38 P3_1/RxD3 (io), 39 P3_0/CLK3 (io), 40 P6_3/TxD0 (io), 41 P6_2/RxD0 (io), 42 P6_1/CLK0 (io), 43 P6_0/RTCOUT/~{CTS}0/~{RTS}0 (io), 44 P2_7/OUTC1_7/INPC1_7 (io), 45 P2_6/OUTC1_6/INPC1_6 (io), 46 P2_5/OUTC1_5/INPC1_5 (io), 47 P2_4/OUTC1_4/INPC1_4 (io), 48 P2_3/OUTC1_3/INPC1_3 (io), 49 P2_2/OUTC1_2/INPC1_2 (io), 50 P2_1/OUTC1_1/INPC1_1/SCLMM (io), 51 P2_0/OUTC1_0/INPC1_0/SDAMM (io), 52 P1_7/~{INT}5/INPC1_7/IDU (io), 53 P1_6/~{INT}4/IDW (io), 54 P1_5/~{INT}3/~{ADTRG}/IDV (io), 55 P1_4 (io), 56 P1_3/AN2_3 (io), 57 P1_2/AN2_2 (io), 58 P1_1/AN2_1 (io), 59 P1_0/AN2_0 (io), 60 P0_7/AN0_7 (io), 61 P0_6/AN0_6 (io), 62 P0_5/AN0_5 (io), 63 P0_4/AN0_4 (io), 64 P0_3/AN0_3 (io), 65 P0_2/AN0_2 (io), 66 P0_1/AN0_1 (io), 67 P0_0/AN0_0 (io), 68 P10_7/~{KI}3/AN_7 (io), 69 P10_6/~{KI}2/AN_6 (io), 70 P10_5/~{KI}1/AN_5 (io), 71 P10_4/~{KI}0/AN_4 (io), 72 P10_3/AN_3 (io), 73 P10_2/AN_2 (io), 74 P10_1/AN_1 (io), 76 P10_0/AN_0 (io), 77 VREF (in), 79 P9_7/AN2_7/RxD4 (io), 80 P9_6/AN2_6/TxD4 (io)
part B pins: 11 VSS (power), 13 VCC (power), 75 AVSS (power), 78 AVCC (power)

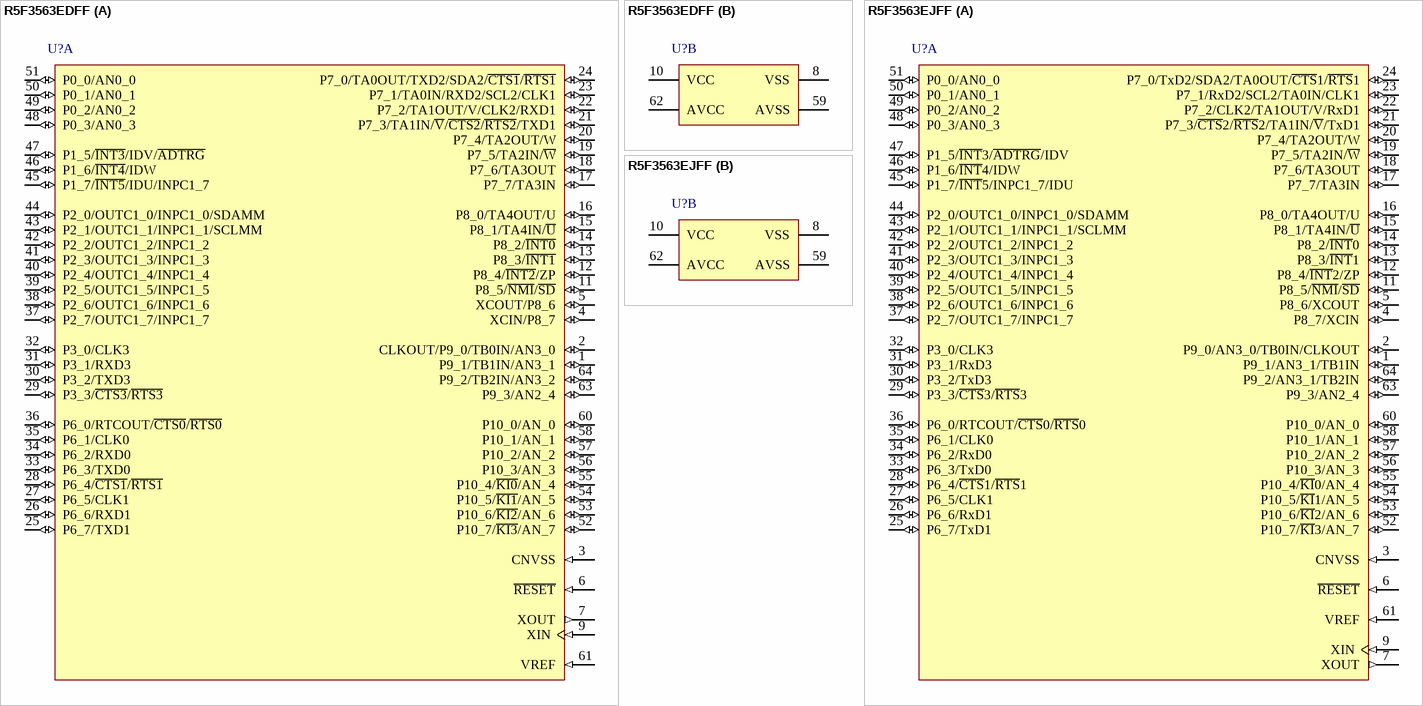
[diagram p162: symbols R5F3563EDFF to R5F3563EJFF]

## R5F3563EDFF
designator U?
Flash Memory M16C/50 Series, M16C/56D Group MCU, 256K + 24K ROM, 20K RAM, CAN Module, 64-pin QFP, -40 to 85°C; Published: 26-Feb-2010; DatasheetVersion: Rev.1.10, Dec-2009; PackageVersion: Sep-2005; PackageReference: PLQP0064KB-A; Publisher: Altium Limited; PackageDescription: 64-Pin Plastic Low Profile QFP, 10 x 10 x 1.4 mm Body, 0.5 mm Pitch; Code_JEITA: P-LQFP64-10x10-0.50; Code_IPC: SQFP50P1200X1200-64; ComponentLink1Description: Manufacturer Link; ComponentLink1URL: http://sg.renesas.com/fmwk.jsp?cnt=m16c_family_landing.jsp&fp=/products/mpumcu/m16c_family/; ComponentLink2Description: Datasheet; ComponentLink2URL: http://documentation.renesas.com/eng/products/mpumcu/rej03b0307_16c5ldds.pdf; ComponentLink3Description: Packaging Specification; ComponentLink3URL: http://sg.renesas.com/media/products/common_info/package/pdf/ic/code/plqp0064kb_a.pdf
footprint PLQP0064KB-A_N (Shrink QFP, 64-Leads, Body 10x10mm, Pitch 0.5mm, IPC Medium Density)
footprint PLQP0064KB-A_L (Shrink QFP, 64-Leads, Body 10x10mm, Pitch 0.5mm, IPC High Density)
footprint PLQP0064KB-A_M (Shrink QFP, 64-Leads, Body 10x10mm, Pitch 0.5mm, IPC Low Density)
part A pins: 1 P9_1/TB1IN/AN3_1 (io), 2 CLKOUT/P9_0/TB0IN/AN3_0 (io), 3 CNVSS (in), 4 XCIN/P8_7 (io), 5 XCOUT/P8_6 (io), 6 ~{RESET} (in), 7 XOUT (out), 9 XIN (in), 11 P8_5/~{NMI}/~{SD} (io), 12 P8_4/~{INT2}/ZP (io), 13 P8_3/~{INT1} (io), 14 P8_2/~{INT0} (io), 15 P8_1/TA4IN/~{U} (io), 16 P8_0/TA4OUT/U (io), 17 P7_7/TA3IN (io), 18 P7_6/TA3OUT (io), 19 P7_5/TA2IN/~{W} (io), 20 P7_4/TA2OUT/W (io), 21 P7_3/TA1IN/~{V}/~{CTS2}/~{RTS2}/TXD1 (io), 22 P7_2/TA1OUT/V/CLK2/RXD1 (io), 23 P7_1/TA0IN/RXD2/SCL2/CLK1 (io), 24 P7_0/TA0OUT/TXD2/SDA2/~{CTS1}/~{RTS1} (io), 25 P6_7/TXD1 (io), 26 P6_6/RXD1 (io), 27 P6_5/CLK1 (io), 28 P6_4/~{CTS1}/~{RTS1} (io), 29 P3_3/~{CTS3}/~{RTS3} (io), 30 P3_2/TXD3 (io), 31 P3_1/RXD3 (io), 32 P3_0/CLK3 (io), 33 P6_3/TXD0 (io), 34 P6_2/RXD0 (io), 35 P6_1/CLK0 (io), 36 P6_0/RTCOUT/~{CTS0}/~{RTS0} (io), 37 P2_7/OUTC1_7/INPC1_7 (io), 38 P2_6/OUTC1_6/INPC1_6 (io), 39 P2_5/OUTC1_5/INPC1_5 (io), 40 P2_4/OUTC1_4/INPC1_4 (io), 41 P2_3/OUTC1_3/INPC1_3 (io), 42 P2_2/OUTC1_2/INPC1_2 (io), 43 P2_1/OUTC1_1/INPC1_1/SCLMM (io), 44 P2_0/OUTC1_0/INPC1_0/SDAMM (io), 45 P1_7/~{INT5}/IDU/INPC1_7 (io), 46 P1_6/~{INT4}/IDW (io), 47 P1_5/~{INT3}/IDV/~{ADTRG} (io), 48 P0_3/AN0_3 (io), 49 P0_2/AN0_2 (io), 50 P0_1/AN0_1 (io), 51 P0_0/AN0_0 (io), 52 P10_7/~{KI3}/AN_7 (io), 53 P10_6/~{KI2}/AN_6 (io), 54 P10_5/~{KI1}/AN_5 (io), 55 P10_4/~{KI0}/AN_4 (io), 56 P10_3/AN_3 (io), 57 P10_2/AN_2 (io), 58 P10_1/AN_1 (io), 60 P10_0/AN_0 (io), 61 VREF (in), 63 P9_3/AN2_4 (io), 64 P9_2/TB2IN/AN3_2 (io)
part B pins: 8 VSS (power), 10 VCC (power), 59 AVSS (power), 62 AVCC (power)

## R5F3563EJFF
designator U?
Flash Memory M16C/50 Series, 56 Group MCU, 256K + 24K ROM, 20K RAM, 64-pin QFP, -40 to 85°C; Published: 28-Aug-2009; DatasheetVersion: Rev.0.40, Jul-2008; PackageVersion: Sep-2005; PackageReference: PLQP0064KB-A; Publisher: Altium Limited; PackageDescription: 64-Pin Plastic Low Profile QFP, 10 x 10 x 1.4 mm Body, 0.5 mm Pitch; Code_JEITA: P-LQFP64-10x10-0.50; Code_IPC: SQFP50P1200X1200-64; ComponentLink1Description: Manufacturer Link; ComponentLink1URL: http://sg.renesas.com/fmwk.jsp?cnt=m16c_family_landing.jsp&fp=/products/mpumcu/m16c_family/; ComponentLink2Description: Datasheet; ComponentLink2URL: http://documentation.renesas.com/eng/products/mpumcu/rej03b0221_16c5l56ds.pdf; ComponentLink3Description: Packaging Specification; ComponentLink3URL: http://sg.renesas.com/media/products/common_info/package/pdf/ic/code/plqp0064kb_a.pdf
footprint PLQP0064KB-A_N (Shrink QFP, 64-Leads, Body 10x10mm, Pitch 0.5mm, IPC Medium Density)
footprint PLQP0064KB-A_L (Shrink QFP, 64-Leads, Body 10x10mm, Pitch 0.5mm, IPC High Density)
footprint PLQP0064KB-A_M (Shrink QFP, 64-Leads, Body 10x10mm, Pitch 0.5mm, IPC Low Density)
part A pins: 1 P9_1/AN3_1/TB1IN (io), 2 P9_0/AN3_0/TB0IN/CLKOUT (io), 3 CNVSS (in), 4 P8_7/XCIN (io), 5 P8_6/XCOUT (io), 6 ~{RESET} (in), 7 XOUT (out), 9 XIN (in), 11 P8_5/~{NMI}/~{SD} (io), 12 P8_4/~{INT}2/ZP (io), 13 P8_3/~{INT}1 (io), 14 P8_2/~{INT}0 (io), 15 P8_1/TA4IN/~{U} (io), 16 P8_0/TA4OUT/U (io), 17 P7_7/TA3IN (io), 18 P7_6/TA3OUT (io), 19 P7_5/TA2IN/~{W} (io), 20 P7_4/TA2OUT/W (io), 21 P7_3/~{CTS}2/~{RTS}2/TA1IN/~{V}/TxD1 (io), 22 P7_2/CLK2/TA1OUT/V/RxD1 (io), 23 P7_1/RxD2/SCL2/TA0IN/CLK1 (io), 24 P7_0/TxD2/SDA2/TA0OUT/~{CTS}1/~{RTS}1 (io), 25 P6_7/TxD1 (io), 26 P6_6/RxD1 (io), 27 P6_5/CLK1 (io), 28 P6_4/~{CTS}1/~{RTS}1 (io), 29 P3_3/~{CTS}3/~{RTS}3 (io), 30 P3_2/TxD3 (io), 31 P3_1/RxD3 (io), 32 P3_0/CLK3 (io), 33 P6_3/TxD0 (io), 34 P6_2/RxD0 (io), 35 P6_1/CLK0 (io), 36 P6_0/RTCOUT/~{CTS}0/~{RTS}0 (io), 37 P2_7/OUTC1_7/INPC1_7 (io), 38 P2_6/OUTC1_6/INPC1_6 (io), 39 P2_5/OUTC1_5/INPC1_5 (io), 40 P2_4/OUTC1_4/INPC1_4 (io), 41 P2_3/OUTC1_3/INPC1_3 (io), 42 P2_2/OUTC1_2/INPC1_2 (io), 43 P2_1/OUTC1_1/INPC1_1/SCLMM (io), 44 P2_0/OUTC1_0/INPC1_0/SDAMM (io), 45 P1_7/~{INT}5/INPC1_7/IDU (io), 46 P1_6/~{INT}4/IDW (io), 47 P1_5/~{INT}3/~{ADTRG}/IDV (io), 48 P0_3/AN0_3 (io), 49 P0_2/AN0_2 (io), 50 P0_1/AN0_1 (io), 51 P0_0/AN0_0 (io), 52 P10_7/~{KI}3/AN_7 (io), 53 P10_6/~{KI}2/AN_6 (io), 54 P10_5/~{KI}1/AN_5 (io), 55 P10_4/~{KI}0/AN_4 (io), 56 P10_3/AN_3 (io), 57 P10_2/AN_2 (io), 58 P10_1/AN_1 (io), 60 P10_0/AN_0 (io), 61 VREF (in), 63 P9_3/AN2_4 (io), 64 P9_2/AN3_1/TB2IN (io)
part B pins: 8 VSS (power), 10 VCC (power), 59 AVSS (power), 62 AVCC (power)

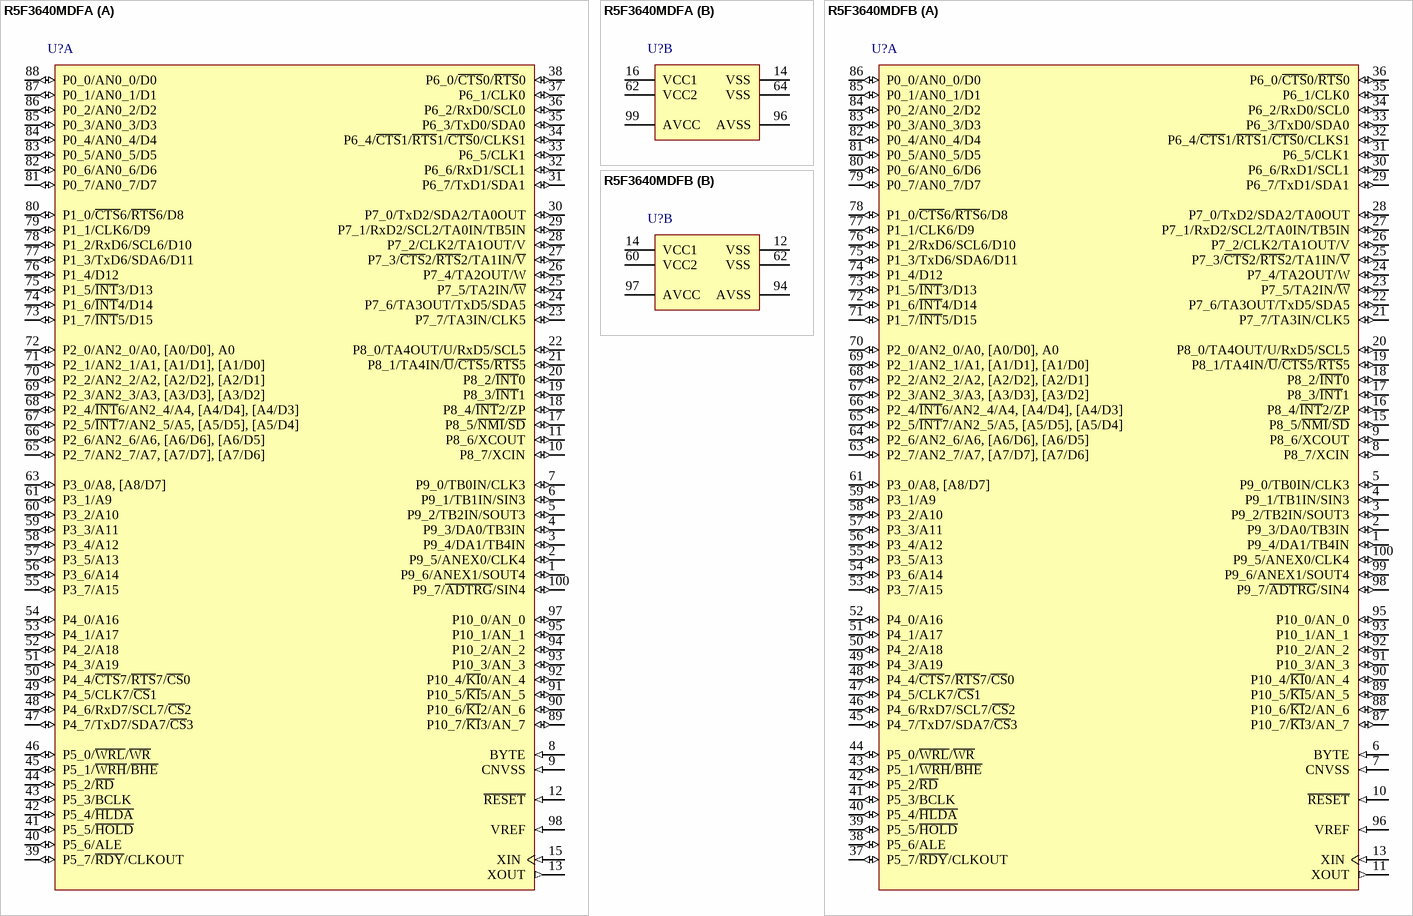
[diagram p163: symbols R5F3640MDFA to R5F3640MDFB]

## R5F3640MDFA
designator U?
Flash Memory M16C/60 Series, 64 Group MCU, 512K + 24K ROM, 31K RAM, 100-pin RQFP, -40 to 85°C; Note: P7_0, P7_1 and P8_5 are N channel open-drain output pins.; Published: 28-Aug-2009; DatasheetVersion: Rev.1.05, Mar-2009; PackageVersion: Nov-2006; PackageReference: PRQP0100JD-B; Publisher: Altium Limited; PackageDescription: 100-Pin Plastic Quad Flat Pack, 20 x 14 x 2.8 mm Body, 0.65 mm Pitch; Code_JEITA: P-QFP100-14x20-0.65; ComponentLink1Description: Manufacturer Link; ComponentLink1URL: http://sg.renesas.com/fmwk.jsp?cnt=m16c_family_landing.jsp&fp=/products/mpumcu/m16c_family/; ComponentLink2Description: Datasheet; ComponentLink2URL: http://documentation.renesas.com/eng/products/mpumcu/rej09b0392_16c64hm.pdf; ComponentLink3Description: Packaging Specification; ComponentLink3URL: http://sg.renesas.com/media/products/common_info/package/pdf/ic/code/prqp0100jd_b.pdf
footprint PRQP0100JD-B_N (QFP, 100-Leads, Body 20x14mm, Pitch 0.65mm, IPC Medium Density)
footprint PRQP0100JD-B_L (QFP, 100-Leads, Body 20x14mm, Pitch 0.65mm, IPC High Density)
footprint PRQP0100JD-B_M (QFP, 100-Leads, Body 20x14mm, Pitch 0.65mm, IPC Low Density)
part A pins: 1 P9_6/ANEX1/SOUT4 (io), 2 P9_5/ANEX0/CLK4 (io), 3 P9_4/DA1/TB4IN (io), 4 P9_3/DA0/TB3IN (io), 5 P9_2/TB2IN/SOUT3 (io), 6 P9_1/TB1IN/SIN3 (io), 7 P9_0/TB0IN/CLK3 (io), 8 BYTE (in), 9 CNVSS (in), 10 P8_7/XCIN (io), 11 P8_6/XCOUT (io), 12 ~{RESET} (in), 13 XOUT (out), 15 XIN (in), 17 P8_5/~{NMI}/~{SD} (io), 18 P8_4/~{INT}2/ZP (io), 19 P8_3/~{INT}1 (io), 20 P8_2/~{INT}0 (io), 21 P8_1/TA4IN/~{U}/~{CTS}5/~{RTS}5 (io), 22 P8_0/TA4OUT/U/RxD5/SCL5 (io), 23 P7_7/TA3IN/CLK5 (io), 24 P7_6/TA3OUT/TxD5/SDA5 (io), 25 P7_5/TA2IN/~{W} (io), 26 P7_4/TA2OUT/W (io), 27 P7_3/~{CTS}2/~{RTS}2/TA1IN/~{V} (io), 28 P7_2/CLK2/TA1OUT/V (io), 29 P7_1/RxD2/SCL2/TA0IN/TB5IN (io), 30 P7_0/TxD2/SDA2/TA0OUT (io), 31 P6_7/TxD1/SDA1 (io), 32 P6_6/RxD1/SCL1 (io), 33 P6_5/CLK1 (io), 34 P6_4/~{CTS}1/~{RTS}1/~{CTS}0/CLKS1 (io), 35 P6_3/TxD0/SDA0 (io), 36 P6_2/RxD0/SCL0 (io), 37 P6_1/CLK0 (io), 38 P6_0/~{CTS}0/~{RTS}0 (io), 39 P5_7/~{RDY}/CLKOUT (io), 40 P5_6/ALE (io), 41 P5_5/~{HOLD} (io), 42 P5_4/~{HLDA} (io), 43 P5_3/BCLK (io), 44 P5_2/~{RD} (io), 45 P5_1/~{WRH}/~{BHE} (io), 46 P5_0/~{WRL}/~{WR} (io), 47 P4_7/TxD7/SDA7/~{CS}3 (io), 48 P4_6/RxD7/SCL7/~{CS}2 (io), 49 P4_5/CLK7/~{CS}1 (io), 50 P4_4/~{CTS}7/~{RTS}7/~{CS}0 (io), 51 P4_3/A19 (io), 52 P4_2/A18 (io), 53 P4_1/A17 (io), 54 P4_0/A16 (io), 55 P3_7/A15 (io), 56 P3_6/A14 (io), 57 P3_5/A13 (io), 58 P3_4/A12 (io), 59 P3_3/A11 (io), 60 P3_2/A10 (io), 61 P3_1/A9 (io), 63 P3_0/A8, [A8/D7] (io), 65 P2_7/AN2_7/A7, [A7/D7], [A7/D6] (io), 66 P2_6/AN2_6/A6, [A6/D6], [A6/D5] (io), 67 P2_5/~{INT}7/AN2_5/A5, [A5/D5], [A5/D4] (io), 68 P2_4/~{INT}6/AN2_4/A4, [A4/D4], [A4/D3] (io), 69 P2_3/AN2_3/A3, [A3/D3], [A3/D2] (io), 70 P2_2/AN2_2/A2, [A2/D2], [A2/D1] (io), 71 P2_1/AN2_1/A1, [A1/D1], [A1/D0] (io), 72 P2_0/AN2_0/A0, [A0/D0], A0 (io), 73 P1_7/~{INT}5/D15 (io), 74 P1_6/~{INT}4/D14 (io), 75 P1_5/~{INT}3/D13 (io), 76 P1_4/D12 (io), 77 P1_3/TxD6/SDA6/D11 (io), 78 P1_2/RxD6/SCL6/D10 (io), 79 P1_1/CLK6/D9 (io), 80 P1_0/~{CTS}6/~{RTS}6/D8 (io), 81 P0_7/AN0_7/D7 (io), 82 P0_6/AN0_6/D6 (io), 83 P0_5/AN0_5/D5 (io), 84 P0_4/AN0_4/D4 (io), 85 P0_3/AN0_3/D3 (io), 86 P0_2/AN0_2/D2 (io), 87 P0_1/AN0_1/D1 (io), 88 P0_0/AN0_0/D0 (io), 89 P10_7/~{KI}3/AN_7 (io), 90 P10_6/~{KI}2/AN_6 (io), 91 P10_5/~{KI}5/AN_5 (io), 92 P10_4/~{KI}0/AN_4 (io), 93 P10_3/AN_3 (io), 94 P10_2/AN_2 (io), 95 P10_1/AN_1 (io), 97 P10_0/AN_0 (io), 98 VREF (in), 100 P9_7/~{ADTRG}/SIN4 (io)
part B pins: 14 VSS (power), 16 VCC1 (power), 62 VCC2 (power), 64 VSS (power), 96 AVSS (power), 99 AVCC (power)

## R5F3640MDFB
designator U?
Flash Memory M16C/60 Series, 64 Group MCU, 512K + 24K ROM, 31K RAM, 100-pin LQFP, -40 to 85°C; Note: P7_0, P7_1 and P8_5 are N channel open-drain output pins.; Published: 28-Aug-2009; DatasheetVersion: Rev.1.05, Mar-2009; PackageVersion: Sep-2005; PackageReference: PLQP0100KB-A; Publisher: Altium Limited; PackageDescription: 100-Pin Plastic Low Profile QFP, 14 x 14 x 1.4 mm Body, 0.5 mm Pitch; Code_JEITA: P-LQFP100-14x14-0.50; Code_IPC: SQFP50P1600X1600-100; ComponentLink1Description: Manufacturer Link; ComponentLink1URL: http://sg.renesas.com/fmwk.jsp?cnt=m16c_family_landing.jsp&fp=/products/mpumcu/m16c_family/; ComponentLink2Description: Datasheet; ComponentLink2URL: http://documentation.renesas.com/eng/products/mpumcu/rej09b0392_16c64hm.pdf; ComponentLink3Description: Packaging Specification; ComponentLink3URL: http://sg.renesas.com/media/products/common_info/package/pdf/ic/code/plqp0100kb_a.pdf
footprint PLQP0100KB-A_N (Shrink QFP, 100-Leads, Body 14x14mm, Pitch 0.5mm, IPC Medium Density)
footprint PLQP0100KB-A_L (Shrink QFP, 100-Leads, Body 14x14mm, Pitch 0.5mm, IPC High Density)
footprint PLQP0100KB-A_M (Shrink QFP, 100-Leads, Body 14x14mm, Pitch 0.5mm, IPC Low Density)
part A pins: 1 P9_4/DA1/TB4IN (io), 2 P9_3/DA0/TB3IN (io), 3 P9_2/TB2IN/SOUT3 (io), 4 P9_1/TB1IN/SIN3 (io), 5 P9_0/TB0IN/CLK3 (io), 6 BYTE (in), 7 CNVSS (in), 8 P8_7/XCIN (io), 9 P8_6/XCOUT (io), 10 ~{RESET} (in), 11 XOUT (out), 13 XIN (in), 15 P8_5/~{NMI}/~{SD} (io), 16 P8_4/~{INT}2/ZP (io), 17 P8_3/~{INT}1 (io), 18 P8_2/~{INT}0 (io), 19 P8_1/TA4IN/~{U}/~{CTS}5/~{RTS}5 (io), 20 P8_0/TA4OUT/U/RxD5/SCL5 (io), 21 P7_7/TA3IN/CLK5 (io), 22 P7_6/TA3OUT/TxD5/SDA5 (io), 23 P7_5/TA2IN/~{W} (io), 24 P7_4/TA2OUT/W (io), 25 P7_3/~{CTS}2/~{RTS}2/TA1IN/~{V} (io), 26 P7_2/CLK2/TA1OUT/V (io), 27 P7_1/RxD2/SCL2/TA0IN/TB5IN (io), 28 P7_0/TxD2/SDA2/TA0OUT (io), 29 P6_7/TxD1/SDA1 (io), 30 P6_6/RxD1/SCL1 (io), 31 P6_5/CLK1 (io), 32 P6_4/~{CTS}1/~{RTS}1/~{CTS}0/CLKS1 (io), 33 P6_3/TxD0/SDA0 (io), 34 P6_2/RxD0/SCL0 (io), 35 P6_1/CLK0 (io), 36 P6_0/~{CTS}0/~{RTS}0 (io), 37 P5_7/~{RDY}/CLKOUT (io), 38 P5_6/ALE (io), 39 P5_5/~{HOLD} (io), 40 P5_4/~{HLDA} (io), 41 P5_3/BCLK (io), 42 P5_2/~{RD} (io), 43 P5_1/~{WRH}/~{BHE} (io), 44 P5_0/~{WRL}/~{WR} (io), 45 P4_7/TxD7/SDA7/~{CS}3 (io), 46 P4_6/RxD7/SCL7/~{CS}2 (io), 47 P4_5/CLK7/~{CS}1 (io), 48 P4_4/~{CTS}7/~{RTS}7/~{CS}0 (io), 49 P4_3/A19 (io), 50 P4_2/A18 (io), 51 P4_1/A17 (io), 52 P4_0/A16 (io), 53 P3_7/A15 (io), 54 P3_6/A14 (io), 55 P3_5/A13 (io), 56 P3_4/A12 (io), 57 P3_3/A11 (io), 58 P3_2/A10 (io), 59 P3_1/A9 (io), 61 P3_0/A8, [A8/D7] (io), 63 P2_7/AN2_7/A7, [A7/D7], [A7/D6] (io), 64 P2_6/AN2_6/A6, [A6/D6], [A6/D5] (io), 65 P2_5/~{INT}7/AN2_5/A5, [A5/D5], [A5/D4] (io), 66 P2_4/~{INT}6/AN2_4/A4, [A4/D4], [A4/D3] (io), 67 P2_3/AN2_3/A3, [A3/D3], [A3/D2] (io), 68 P2_2/AN2_2/A2, [A2/D2], [A2/D1] (io), 69 P2_1/AN2_1/A1, [A1/D1], [A1/D0] (io), 70 P2_0/AN2_0/A0, [A0/D0], A0 (io), 71 P1_7/~{INT}5/D15 (io), 72 P1_6/~{INT}4/D14 (io), 73 P1_5/~{INT}3/D13 (io), 74 P1_4/D12 (io), 75 P1_3/TxD6/SDA6/D11 (io), 76 P1_2/RxD6/SCL6/D10 (io), 77 P1_1/CLK6/D9 (io), 78 P1_0/~{CTS}6/~{RTS}6/D8 (io), 79 P0_7/AN0_7/D7 (io), 80 P0_6/AN0_6/D6 (io), 81 P0_5/AN0_5/D5 (io), 82 P0_4/AN0_4/D4 (io), 83 P0_3/AN0_3/D3 (io), 84 P0_2/AN0_2/D2 (io), 85 P0_1/AN0_1/D1 (io), 86 P0_0/AN0_0/D0 (io), 87 P10_7/~{KI}3/AN_7 (io), 88 P10_6/~{KI}2/AN_6 (io), 89 P10_5/~{KI}5/AN_5 (io), 90 P10_4/~{KI}0/AN_4 (io), 91 P10_3/AN_3 (io), 92 P10_2/AN_2 (io), 93 P10_1/AN_1 (io), 95 P10_0/AN_0 (io), 96 VREF (in), 98 P9_7/~{ADTRG}/SIN4 (io), 99 P9_6/ANEX1/SOUT4 (io), 100 P9_5/ANEX0/CLK4 (io)
part B pins: 12 VSS (power), 14 VCC1 (power), 60 VCC2 (power), 62 VSS (power), 94 AVSS (power), 97 AVCC (power)

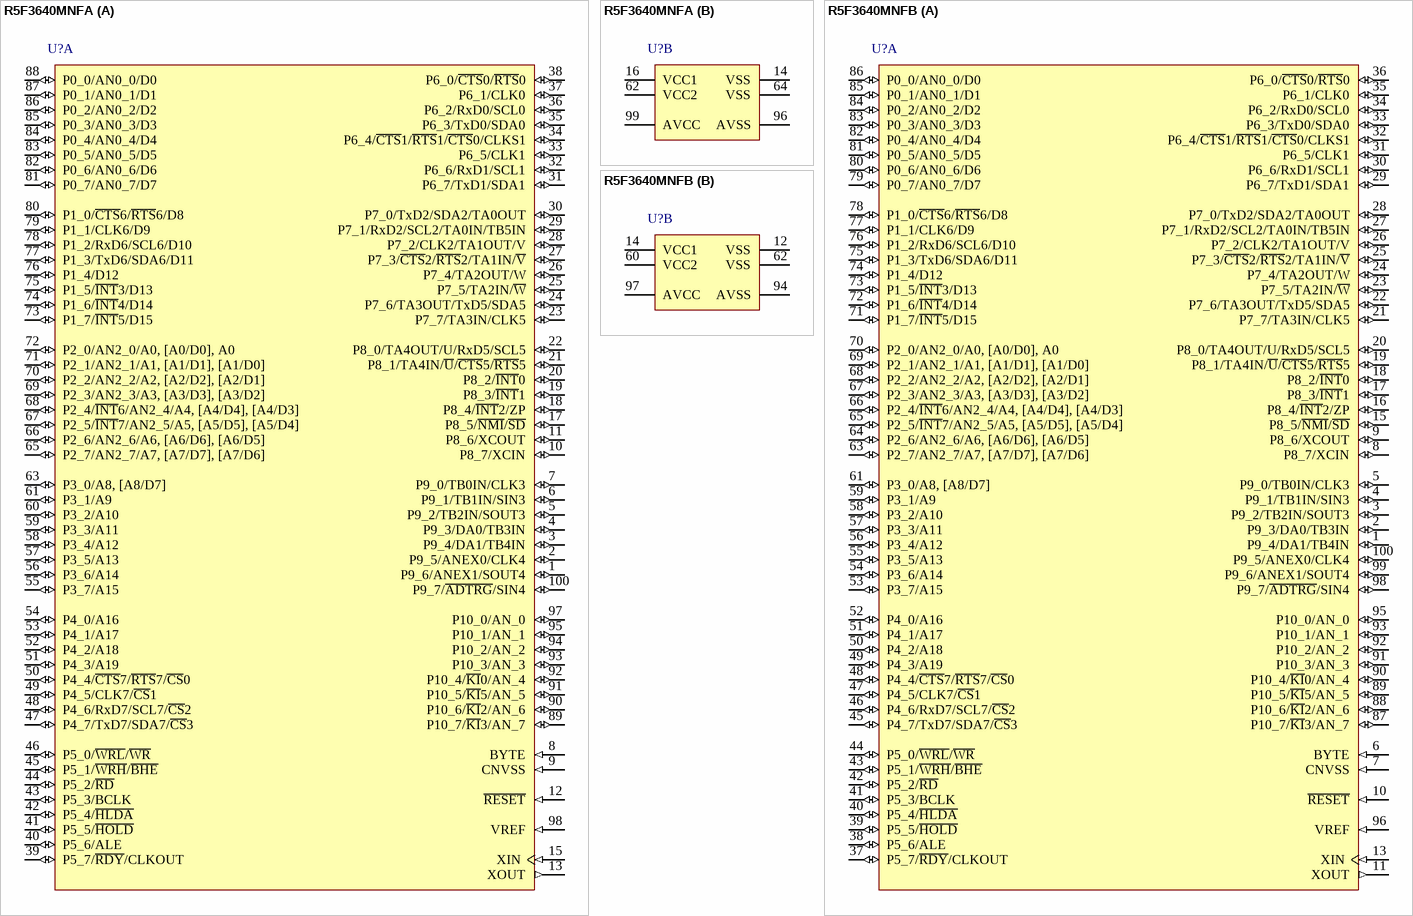
[diagram p164: symbols R5F3640MNFA to R5F3640MNFB]

## R5F3640MNFA
designator U?
Flash Memory M16C/60 Series, 64 Group MCU, 512K + 24K ROM, 31K RAM, 100-pin RQFP, -20 to 85°C; Note: P7_0, P7_1 and P8_5 are N channel open-drain output pins.; Published: 28-Aug-2009; DatasheetVersion: Rev.1.05, Mar-2009; PackageVersion: Nov-2006; PackageReference: PRQP0100JD-B; Publisher: Altium Limited; PackageDescription: 100-Pin Plastic Quad Flat Pack, 20 x 14 x 2.8 mm Body, 0.65 mm Pitch; Code_JEITA: P-QFP100-14x20-0.65; ComponentLink1Description: Manufacturer Link; ComponentLink1URL: http://sg.renesas.com/fmwk.jsp?cnt=m16c_family_landing.jsp&fp=/products/mpumcu/m16c_family/; ComponentLink2Description: Datasheet; ComponentLink2URL: http://documentation.renesas.com/eng/products/mpumcu/rej09b0392_16c64hm.pdf; ComponentLink3Description: Packaging Specification; ComponentLink3URL: http://sg.renesas.com/media/products/common_info/package/pdf/ic/code/prqp0100jd_b.pdf
footprint PRQP0100JD-B_N (QFP, 100-Leads, Body 20x14mm, Pitch 0.65mm, IPC Medium Density)
footprint PRQP0100JD-B_L (QFP, 100-Leads, Body 20x14mm, Pitch 0.65mm, IPC High Density)
footprint PRQP0100JD-B_M (QFP, 100-Leads, Body 20x14mm, Pitch 0.65mm, IPC Low Density)
part A pins: 1 P9_6/ANEX1/SOUT4 (io), 2 P9_5/ANEX0/CLK4 (io), 3 P9_4/DA1/TB4IN (io), 4 P9_3/DA0/TB3IN (io), 5 P9_2/TB2IN/SOUT3 (io), 6 P9_1/TB1IN/SIN3 (io), 7 P9_0/TB0IN/CLK3 (io), 8 BYTE (in), 9 CNVSS (in), 10 P8_7/XCIN (io), 11 P8_6/XCOUT (io), 12 ~{RESET} (in), 13 XOUT (out), 15 XIN (in), 17 P8_5/~{NMI}/~{SD} (io), 18 P8_4/~{INT}2/ZP (io), 19 P8_3/~{INT}1 (io), 20 P8_2/~{INT}0 (io), 21 P8_1/TA4IN/~{U}/~{CTS}5/~{RTS}5 (io), 22 P8_0/TA4OUT/U/RxD5/SCL5 (io), 23 P7_7/TA3IN/CLK5 (io), 24 P7_6/TA3OUT/TxD5/SDA5 (io), 25 P7_5/TA2IN/~{W} (io), 26 P7_4/TA2OUT/W (io), 27 P7_3/~{CTS}2/~{RTS}2/TA1IN/~{V} (io), 28 P7_2/CLK2/TA1OUT/V (io), 29 P7_1/RxD2/SCL2/TA0IN/TB5IN (io), 30 P7_0/TxD2/SDA2/TA0OUT (io), 31 P6_7/TxD1/SDA1 (io), 32 P6_6/RxD1/SCL1 (io), 33 P6_5/CLK1 (io), 34 P6_4/~{CTS}1/~{RTS}1/~{CTS}0/CLKS1 (io), 35 P6_3/TxD0/SDA0 (io), 36 P6_2/RxD0/SCL0 (io), 37 P6_1/CLK0 (io), 38 P6_0/~{CTS}0/~{RTS}0 (io), 39 P5_7/~{RDY}/CLKOUT (io), 40 P5_6/ALE (io), 41 P5_5/~{HOLD} (io), 42 P5_4/~{HLDA} (io), 43 P5_3/BCLK (io), 44 P5_2/~{RD} (io), 45 P5_1/~{WRH}/~{BHE} (io), 46 P5_0/~{WRL}/~{WR} (io), 47 P4_7/TxD7/SDA7/~{CS}3 (io), 48 P4_6/RxD7/SCL7/~{CS}2 (io), 49 P4_5/CLK7/~{CS}1 (io), 50 P4_4/~{CTS}7/~{RTS}7/~{CS}0 (io), 51 P4_3/A19 (io), 52 P4_2/A18 (io), 53 P4_1/A17 (io), 54 P4_0/A16 (io), 55 P3_7/A15 (io), 56 P3_6/A14 (io), 57 P3_5/A13 (io), 58 P3_4/A12 (io), 59 P3_3/A11 (io), 60 P3_2/A10 (io), 61 P3_1/A9 (io), 63 P3_0/A8, [A8/D7] (io), 65 P2_7/AN2_7/A7, [A7/D7], [A7/D6] (io), 66 P2_6/AN2_6/A6, [A6/D6], [A6/D5] (io), 67 P2_5/~{INT}7/AN2_5/A5, [A5/D5], [A5/D4] (io), 68 P2_4/~{INT}6/AN2_4/A4, [A4/D4], [A4/D3] (io), 69 P2_3/AN2_3/A3, [A3/D3], [A3/D2] (io), 70 P2_2/AN2_2/A2, [A2/D2], [A2/D1] (io), 71 P2_1/AN2_1/A1, [A1/D1], [A1/D0] (io), 72 P2_0/AN2_0/A0, [A0/D0], A0 (io), 73 P1_7/~{INT}5/D15 (io), 74 P1_6/~{INT}4/D14 (io), 75 P1_5/~{INT}3/D13 (io), 76 P1_4/D12 (io), 77 P1_3/TxD6/SDA6/D11 (io), 78 P1_2/RxD6/SCL6/D10 (io), 79 P1_1/CLK6/D9 (io), 80 P1_0/~{CTS}6/~{RTS}6/D8 (io), 81 P0_7/AN0_7/D7 (io), 82 P0_6/AN0_6/D6 (io), 83 P0_5/AN0_5/D5 (io), 84 P0_4/AN0_4/D4 (io), 85 P0_3/AN0_3/D3 (io), 86 P0_2/AN0_2/D2 (io), 87 P0_1/AN0_1/D1 (io), 88 P0_0/AN0_0/D0 (io), 89 P10_7/~{KI}3/AN_7 (io), 90 P10_6/~{KI}2/AN_6 (io), 91 P10_5/~{KI}5/AN_5 (io), 92 P10_4/~{KI}0/AN_4 (io), 93 P10_3/AN_3 (io), 94 P10_2/AN_2 (io), 95 P10_1/AN_1 (io), 97 P10_0/AN_0 (io), 98 VREF (in), 100 P9_7/~{ADTRG}/SIN4 (io)
part B pins: 14 VSS (power), 16 VCC1 (power), 62 VCC2 (power), 64 VSS (power), 96 AVSS (power), 99 AVCC (power)

## R5F3640MNFB
designator U?
Flash Memory M16C/60 Series, 64 Group MCU, 512K + 24K ROM, 31K RAM, 100-pin LQFP, -20 to 85°C; Note: P7_0, P7_1 and P8_5 are N channel open-drain output pins.; Published: 28-Aug-2009; DatasheetVersion: Rev.1.05, Mar-2009; PackageVersion: Sep-2005; PackageReference: PLQP0100KB-A; Publisher: Altium Limited; PackageDescription: 100-Pin Plastic Low Profile QFP, 14 x 14 x 1.4 mm Body, 0.5 mm Pitch; Code_JEITA: P-LQFP100-14x14-0.50; Code_IPC: SQFP50P1600X1600-100; ComponentLink1Description: Manufacturer Link; ComponentLink1URL: http://sg.renesas.com/fmwk.jsp?cnt=m16c_family_landing.jsp&fp=/products/mpumcu/m16c_family/; ComponentLink2Description: Datasheet; ComponentLink2URL: http://documentation.renesas.com/eng/products/mpumcu/rej09b0392_16c64hm.pdf; ComponentLink3Description: Packaging Specification; ComponentLink3URL: http://sg.renesas.com/media/products/common_info/package/pdf/ic/code/plqp0100kb_a.pdf
footprint PLQP0100KB-A_N (Shrink QFP, 100-Leads, Body 14x14mm, Pitch 0.5mm, IPC Medium Density)
footprint PLQP0100KB-A_L (Shrink QFP, 100-Leads, Body 14x14mm, Pitch 0.5mm, IPC High Density)
footprint PLQP0100KB-A_M (Shrink QFP, 100-Leads, Body 14x14mm, Pitch 0.5mm, IPC Low Density)
part A pins: 1 P9_4/DA1/TB4IN (io), 2 P9_3/DA0/TB3IN (io), 3 P9_2/TB2IN/SOUT3 (io), 4 P9_1/TB1IN/SIN3 (io), 5 P9_0/TB0IN/CLK3 (io), 6 BYTE (in), 7 CNVSS (in), 8 P8_7/XCIN (io), 9 P8_6/XCOUT (io), 10 ~{RESET} (in), 11 XOUT (out), 13 XIN (in), 15 P8_5/~{NMI}/~{SD} (io), 16 P8_4/~{INT}2/ZP (io), 17 P8_3/~{INT}1 (io), 18 P8_2/~{INT}0 (io), 19 P8_1/TA4IN/~{U}/~{CTS}5/~{RTS}5 (io), 20 P8_0/TA4OUT/U/RxD5/SCL5 (io), 21 P7_7/TA3IN/CLK5 (io), 22 P7_6/TA3OUT/TxD5/SDA5 (io), 23 P7_5/TA2IN/~{W} (io), 24 P7_4/TA2OUT/W (io), 25 P7_3/~{CTS}2/~{RTS}2/TA1IN/~{V} (io), 26 P7_2/CLK2/TA1OUT/V (io), 27 P7_1/RxD2/SCL2/TA0IN/TB5IN (io), 28 P7_0/TxD2/SDA2/TA0OUT (io), 29 P6_7/TxD1/SDA1 (io), 30 P6_6/RxD1/SCL1 (io), 31 P6_5/CLK1 (io), 32 P6_4/~{CTS}1/~{RTS}1/~{CTS}0/CLKS1 (io), 33 P6_3/TxD0/SDA0 (io), 34 P6_2/RxD0/SCL0 (io), 35 P6_1/CLK0 (io), 36 P6_0/~{CTS}0/~{RTS}0 (io), 37 P5_7/~{RDY}/CLKOUT (io), 38 P5_6/ALE (io), 39 P5_5/~{HOLD} (io), 40 P5_4/~{HLDA} (io), 41 P5_3/BCLK (io), 42 P5_2/~{RD} (io), 43 P5_1/~{WRH}/~{BHE} (io), 44 P5_0/~{WRL}/~{WR} (io), 45 P4_7/TxD7/SDA7/~{CS}3 (io), 46 P4_6/RxD7/SCL7/~{CS}2 (io), 47 P4_5/CLK7/~{CS}1 (io), 48 P4_4/~{CTS}7/~{RTS}7/~{CS}0 (io), 49 P4_3/A19 (io), 50 P4_2/A18 (io), 51 P4_1/A17 (io), 52 P4_0/A16 (io), 53 P3_7/A15 (io), 54 P3_6/A14 (io), 55 P3_5/A13 (io), 56 P3_4/A12 (io), 57 P3_3/A11 (io), 58 P3_2/A10 (io), 59 P3_1/A9 (io), 61 P3_0/A8, [A8/D7] (io), 63 P2_7/AN2_7/A7, [A7/D7], [A7/D6] (io), 64 P2_6/AN2_6/A6, [A6/D6], [A6/D5] (io), 65 P2_5/~{INT}7/AN2_5/A5, [A5/D5], [A5/D4] (io), 66 P2_4/~{INT}6/AN2_4/A4, [A4/D4], [A4/D3] (io), 67 P2_3/AN2_3/A3, [A3/D3], [A3/D2] (io), 68 P2_2/AN2_2/A2, [A2/D2], [A2/D1] (io), 69 P2_1/AN2_1/A1, [A1/D1], [A1/D0] (io), 70 P2_0/AN2_0/A0, [A0/D0], A0 (io), 71 P1_7/~{INT}5/D15 (io), 72 P1_6/~{INT}4/D14 (io), 73 P1_5/~{INT}3/D13 (io), 74 P1_4/D12 (io), 75 P1_3/TxD6/SDA6/D11 (io), 76 P1_2/RxD6/SCL6/D10 (io), 77 P1_1/CLK6/D9 (io), 78 P1_0/~{CTS}6/~{RTS}6/D8 (io), 79 P0_7/AN0_7/D7 (io), 80 P0_6/AN0_6/D6 (io), 81 P0_5/AN0_5/D5 (io), 82 P0_4/AN0_4/D4 (io), 83 P0_3/AN0_3/D3 (io), 84 P0_2/AN0_2/D2 (io), 85 P0_1/AN0_1/D1 (io), 86 P0_0/AN0_0/D0 (io), 87 P10_7/~{KI}3/AN_7 (io), 88 P10_6/~{KI}2/AN_6 (io), 89 P10_5/~{KI}5/AN_5 (io), 90 P10_4/~{KI}0/AN_4 (io), 91 P10_3/AN_3 (io), 92 P10_2/AN_2 (io), 93 P10_1/AN_1 (io), 95 P10_0/AN_0 (io), 96 VREF (in), 98 P9_7/~{ADTRG}/SIN4 (io), 99 P9_6/ANEX1/SOUT4 (io), 100 P9_5/ANEX0/CLK4 (io)
part B pins: 12 VSS (power), 14 VCC1 (power), 60 VCC2 (power), 62 VSS (power), 94 AVSS (power), 97 AVCC (power)

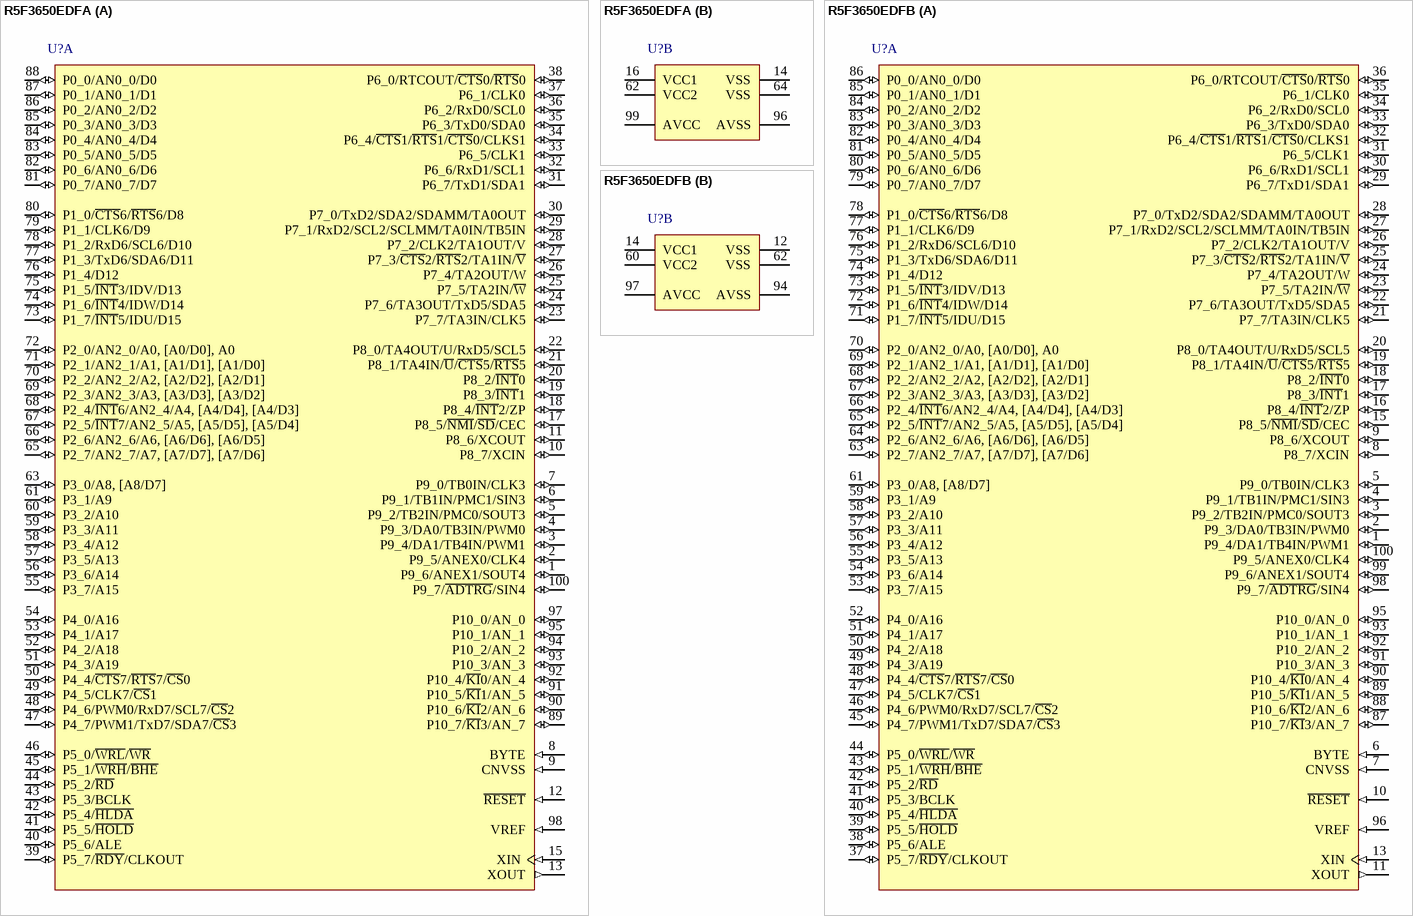
[diagram p165: symbols R5F3650EDFA to R5F3650EDFB]

## R5F3650EDFA
designator U?
Flash Memory M16C/60 Series, 65 Group MCU, 256K + 24K ROM, 20K RAM, 100-pin RQFP, -40 to 85°C; Note: P7_0, P7_1 and P8_5 are N channel open-drain output pins.; Published: 28-Aug-2009; LatestRevisionDate: 26-Feb-2010; LatestRevisionNote: Updated to datasheet revision 1.10 Sep-2009.; DatasheetVersion: Rev.1.10, Sep-2009; PackageVersion: Nov-2006; PackageReference: PRQP0100JD-B; Publisher: Altium Limited; PackageDescription: 100-Pin Plastic Quad Flat Pack, 20 x 14 x 2.8 mm Body, 0.65 mm Pitch; Code_JEITA: P-QFP100-14x20-0.65; ComponentLink1Description: Manufacturer Link; ComponentLink1URL: http://sg.renesas.com/fmwk.jsp?cnt=m16c_family_landing.jsp&fp=/products/mpumcu/m16c_family/; ComponentLink2Description: Datasheet; ComponentLink2URL: http://documentation.renesas.com/eng/products/mpumcu/rej03b0257_16c65ds.pdf; ComponentLink3Description: Packaging Specification; ComponentLink3URL: http://sg.renesas.com/media/products/common_info/package/pdf/ic/code/prqp0100jd_b.pdf
footprint PRQP0100JD-B_N (QFP, 100-Leads, Body 20x14mm, Pitch 0.65mm, IPC Medium Density)
footprint PRQP0100JD-B_L (QFP, 100-Leads, Body 20x14mm, Pitch 0.65mm, IPC High Density)
footprint PRQP0100JD-B_M (QFP, 100-Leads, Body 20x14mm, Pitch 0.65mm, IPC Low Density)
part A pins: 1 P9_6/ANEX1/SOUT4 (io), 2 P9_5/ANEX0/CLK4 (io), 3 P9_4/DA1/TB4IN/PWM1 (io), 4 P9_3/DA0/TB3IN/PWM0 (io), 5 P9_2/TB2IN/PMC0/SOUT3 (io), 6 P9_1/TB1IN/PMC1/SIN3 (io), 7 P9_0/TB0IN/CLK3 (io), 8 BYTE (in), 9 CNVSS (in), 10 P8_7/XCIN (io), 11 P8_6/XCOUT (io), 12 ~{RESET} (in), 13 XOUT (out), 15 XIN (in), 17 P8_5/~{NMI}/~{SD}/CEC (io), 18 P8_4/~{INT}2/ZP (io), 19 P8_3/~{INT}1 (io), 20 P8_2/~{INT}0 (io), 21 P8_1/TA4IN/~{U}/~{CTS}5/~{RTS}5 (io), 22 P8_0/TA4OUT/U/RxD5/SCL5 (io), 23 P7_7/TA3IN/CLK5 (io), 24 P7_6/TA3OUT/TxD5/SDA5 (io), 25 P7_5/TA2IN/~{W} (io), 26 P7_4/TA2OUT/W (io), 27 P7_3/~{CTS}2/~{RTS}2/TA1IN/~{V} (io), 28 P7_2/CLK2/TA1OUT/V (io), 29 P7_1/RxD2/SCL2/SCLMM/TA0IN/TB5IN (io), 30 P7_0/TxD2/SDA2/SDAMM/TA0OUT (io), 31 P6_7/TxD1/SDA1 (io), 32 P6_6/RxD1/SCL1 (io), 33 P6_5/CLK1 (io), 34 P6_4/~{CTS}1/~{RTS}1/~{CTS}0/CLKS1 (io), 35 P6_3/TxD0/SDA0 (io), 36 P6_2/RxD0/SCL0 (io), 37 P6_1/CLK0 (io), 38 P6_0/RTCOUT/~{CTS}0/~{RTS}0 (io), 39 P5_7/~{RDY}/CLKOUT (io), 40 P5_6/ALE (io), 41 P5_5/~{HOLD} (io), 42 P5_4/~{HLDA} (io), 43 P5_3/BCLK (io), 44 P5_2/~{RD} (io), 45 P5_1/~{WRH}/~{BHE} (io), 46 P5_0/~{WRL}/~{WR} (io), 47 P4_7/PWM1/TxD7/SDA7/~{CS}3 (io), 48 P4_6/PWM0/RxD7/SCL7/~{CS}2 (io), 49 P4_5/CLK7/~{CS}1 (io), 50 P4_4/~{CTS}7/~{RTS}7/~{CS}0 (io), 51 P4_3/A19 (io), 52 P4_2/A18 (io), 53 P4_1/A17 (io), 54 P4_0/A16 (io), 55 P3_7/A15 (io), 56 P3_6/A14 (io), 57 P3_5/A13 (io), 58 P3_4/A12 (io), 59 P3_3/A11 (io), 60 P3_2/A10 (io), 61 P3_1/A9 (io), 63 P3_0/A8, [A8/D7] (io), 65 P2_7/AN2_7/A7, [A7/D7], [A7/D6] (io), 66 P2_6/AN2_6/A6, [A6/D6], [A6/D5] (io), 67 P2_5/~{INT}7/AN2_5/A5, [A5/D5], [A5/D4] (io), 68 P2_4/~{INT}6/AN2_4/A4, [A4/D4], [A4/D3] (io), 69 P2_3/AN2_3/A3, [A3/D3], [A3/D2] (io), 70 P2_2/AN2_2/A2, [A2/D2], [A2/D1] (io), 71 P2_1/AN2_1/A1, [A1/D1], [A1/D0] (io), 72 P2_0/AN2_0/A0, [A0/D0], A0 (io), 73 P1_7/~{INT}5/IDU/D15 (io), 74 P1_6/~{INT}4/IDW/D14 (io), 75 P1_5/~{INT}3/IDV/D13 (io), 76 P1_4/D12 (io), 77 P1_3/TxD6/SDA6/D11 (io), 78 P1_2/RxD6/SCL6/D10 (io), 79 P1_1/CLK6/D9 (io), 80 P1_0/~{CTS}6/~{RTS}6/D8 (io), 81 P0_7/AN0_7/D7 (io), 82 P0_6/AN0_6/D6 (io), 83 P0_5/AN0_5/D5 (io), 84 P0_4/AN0_4/D4 (io), 85 P0_3/AN0_3/D3 (io), 86 P0_2/AN0_2/D2 (io), 87 P0_1/AN0_1/D1 (io), 88 P0_0/AN0_0/D0 (io), 89 P10_7/~{KI}3/AN_7 (io), 90 P10_6/~{KI}2/AN_6 (io), 91 P10_5/~{KI}1/AN_5 (io), 92 P10_4/~{KI}0/AN_4 (io), 93 P10_3/AN_3 (io), 94 P10_2/AN_2 (io), 95 P10_1/AN_1 (io), 97 P10_0/AN_0 (io), 98 VREF (in), 100 P9_7/~{ADTRG}/SIN4 (io)
part B pins: 14 VSS (power), 16 VCC1 (power), 62 VCC2 (power), 64 VSS (power), 96 AVSS (power), 99 AVCC (power)